# Altium schematic symbol library MCU_Texas_MSP430.SchLib: 361 symbols (part 1 of 7)
Pins are listed as number, name and electrical type; pins without a type are passive.

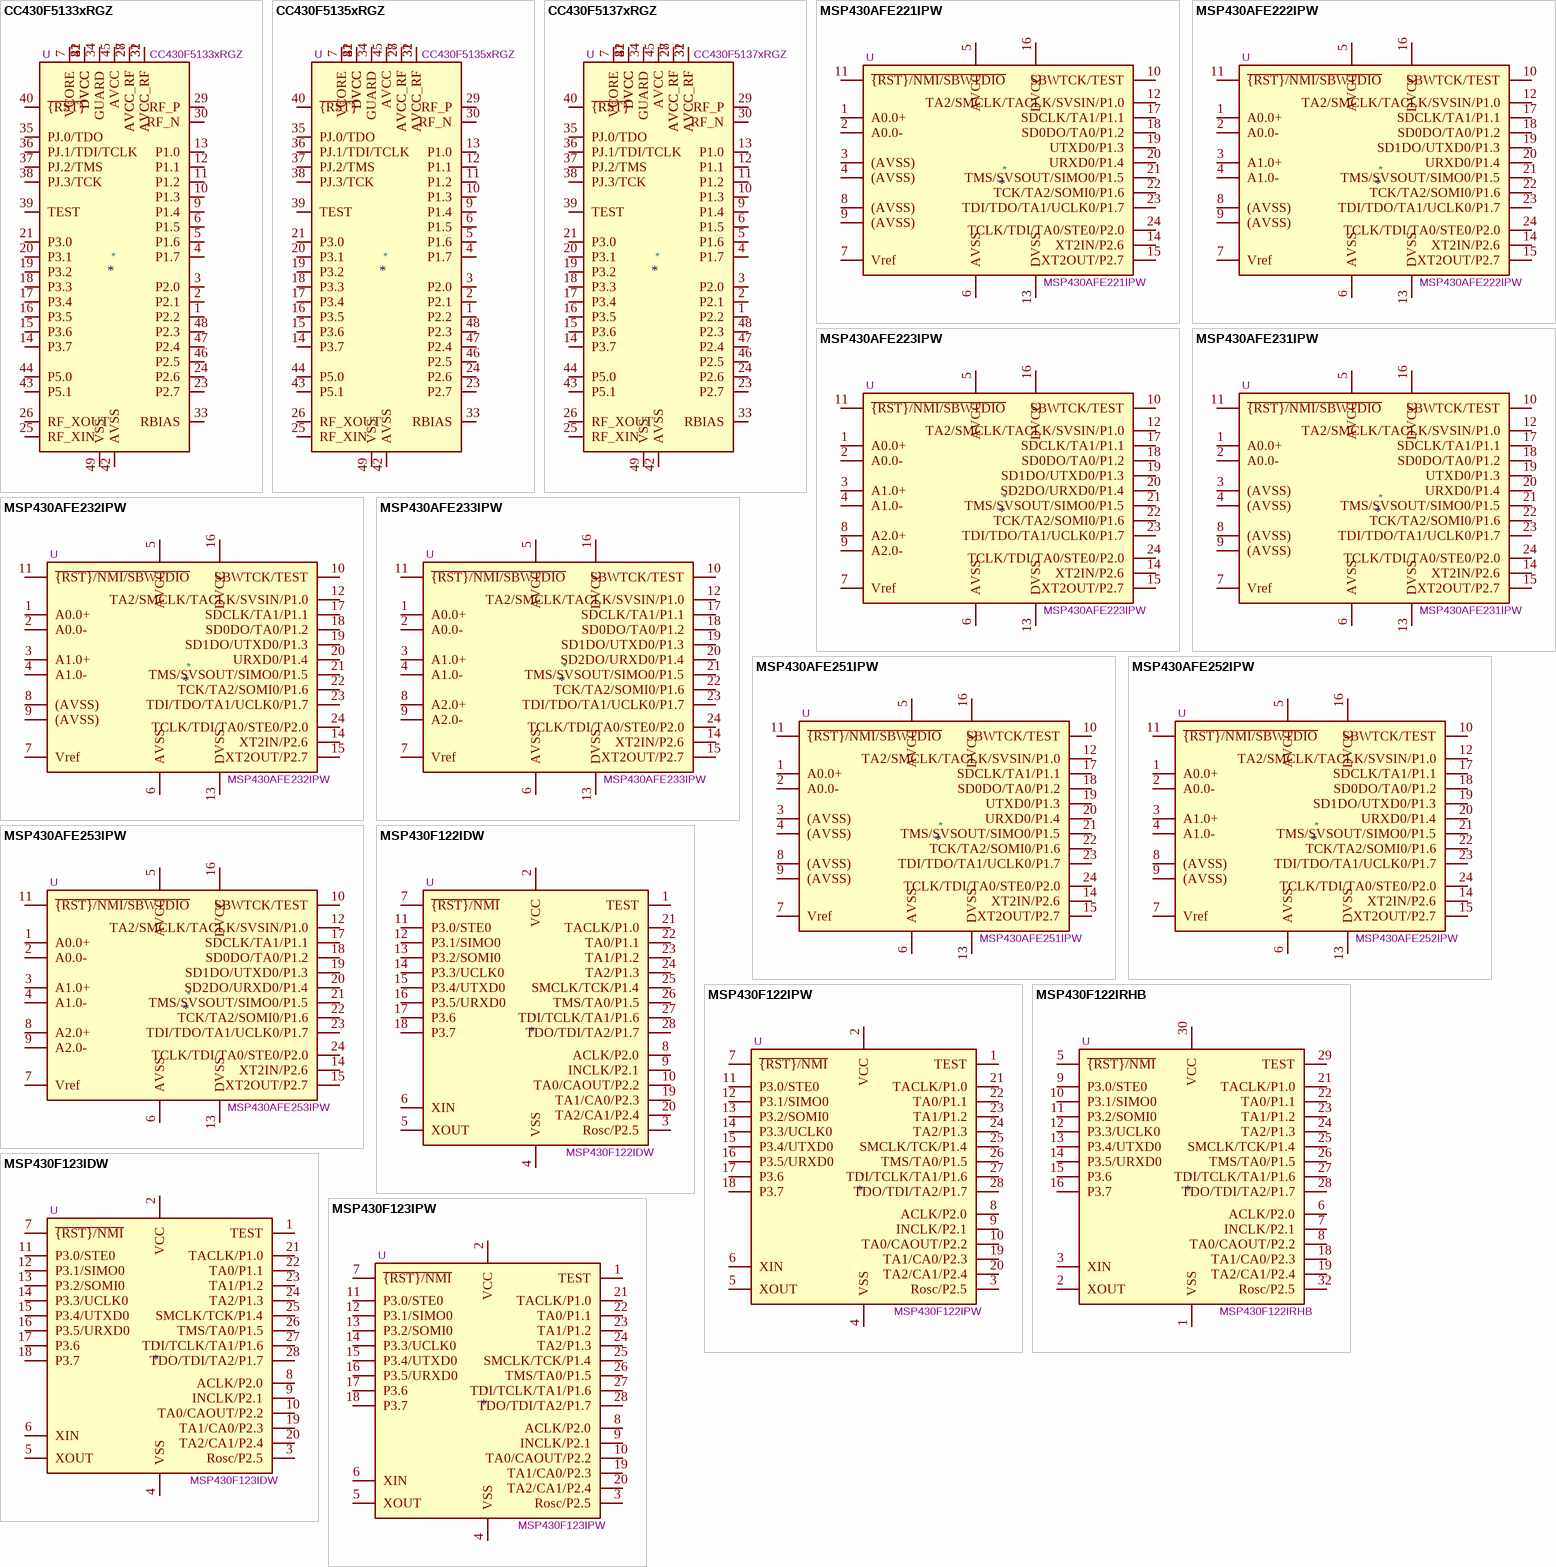
[diagram p0: symbols CC430F5133xRGZ to MSP430F123IPW]

## CC430F5133xRGZ
designator *  value CC430F5133xRGZ  Reference: U
8KB Flash, 2KB RAM, MSP430 core with integrated CC1101 radio transceiver, VQFN-48; ki_keywords: TI MSP430 CC430 16-bit mixed signal microcontroller CC1101; ki_fp_filters: VQFN*1EP*7x7mm*P0.5mm*; Footprint: Package_DFN_QFN:VQFN-48-1EP_7x7mm_P0.5mm_EP4.1x4.1mm_ThermalVias; Datasheet: http://www.ti.com/lit/ds/symlink/cc430f5137.pdf; Description_: 8KB Flash, 2KB RAM, MSP430 core with integrated CC1101 radio transceiver, VQFN-48
pins: 1 P2.2, 2 P2.1, 3 P2.0, 4 P1.7, 5 P1.6, 6 P1.5, 7 VCORE, 8 DVCC, 9 P1.4, 10 P1.3, 11 P1.2, 12 P1.1, 13 P1.0, 14 P3.7, 15 P3.6, 16 P3.5, 17 P3.4, 18 P3.3, 19 P3.2, 20 P3.1, 21 P3.0, 22 DVCC, 23 P2.7, 24 P2.6, 25 RF_XIN, 26 RF_XOUT, 27 AVCC_RF, 28 AVCC_RF, 29 RF_P, 30 RF_N, 31 AVCC_RF, 32 AVCC_RF, 33 RBIAS, 34 GUARD, 35 PJ.0/TDO, 36 PJ.1/TDI/TCLK, 37 PJ.2/TMS, 38 PJ.3/TCK, 39 TEST, 40 ~{{RST}}, 41 DVCC, 42 AVSS, 43 P5.1, 44 P5.0, 45 AVCC, 46 P2.5, 47 P2.4, 48 P2.3, 49 VSS

## CC430F5135xRGZ
designator *  value CC430F5135xRGZ  Reference: U
16KB Flash, 2KB RAM, MSP430 core with integrated CC1101 radio transceiver, VQFN-48; ki_keywords: TI MSP430 CC430 16-bit mixed signal microcontroller CC1101; ki_fp_filters: VQFN*1EP*7x7mm*P0.5mm*; Footprint: Package_DFN_QFN:VQFN-48-1EP_7x7mm_P0.5mm_EP4.1x4.1mm_ThermalVias; Datasheet: http://www.ti.com/lit/ds/symlink/cc430f5137.pdf; Description_: 16KB Flash, 2KB RAM, MSP430 core with integrated CC1101 radio transceiver, VQFN-48
pins: 1 P2.2, 2 P2.1, 3 P2.0, 4 P1.7, 5 P1.6, 6 P1.5, 7 VCORE, 8 DVCC, 9 P1.4, 10 P1.3, 11 P1.2, 12 P1.1, 13 P1.0, 14 P3.7, 15 P3.6, 16 P3.5, 17 P3.4, 18 P3.3, 19 P3.2, 20 P3.1, 21 P3.0, 22 DVCC, 23 P2.7, 24 P2.6, 25 RF_XIN, 26 RF_XOUT, 27 AVCC_RF, 28 AVCC_RF, 29 RF_P, 30 RF_N, 31 AVCC_RF, 32 AVCC_RF, 33 RBIAS, 34 GUARD, 35 PJ.0/TDO, 36 PJ.1/TDI/TCLK, 37 PJ.2/TMS, 38 PJ.3/TCK, 39 TEST, 40 ~{{RST}}, 41 DVCC, 42 AVSS, 43 P5.1, 44 P5.0, 45 AVCC, 46 P2.5, 47 P2.4, 48 P2.3, 49 VSS

## CC430F5137xRGZ
designator *  value CC430F5137xRGZ  Reference: U
32KB Flash, 4KB RAM, MSP430 core with integrated CC1101 radio transceiver, VQFN-48; ki_keywords: TI MSP430 CC430 16-bit mixed signal microcontroller CC1101; ki_fp_filters: VQFN*1EP*7x7mm*P0.5mm*; Footprint: Package_DFN_QFN:VQFN-48-1EP_7x7mm_P0.5mm_EP4.1x4.1mm_ThermalVias; Datasheet: http://www.ti.com/lit/ds/symlink/cc430f5137.pdf; Description_: 32KB Flash, 4KB RAM, MSP430 core with integrated CC1101 radio transceiver, VQFN-48
pins: 1 P2.2, 2 P2.1, 3 P2.0, 4 P1.7, 5 P1.6, 6 P1.5, 7 VCORE, 8 DVCC, 9 P1.4, 10 P1.3, 11 P1.2, 12 P1.1, 13 P1.0, 14 P3.7, 15 P3.6, 16 P3.5, 17 P3.4, 18 P3.3, 19 P3.2, 20 P3.1, 21 P3.0, 22 DVCC, 23 P2.7, 24 P2.6, 25 RF_XIN, 26 RF_XOUT, 27 AVCC_RF, 28 AVCC_RF, 29 RF_P, 30 RF_N, 31 AVCC_RF, 32 AVCC_RF, 33 RBIAS, 34 GUARD, 35 PJ.0/TDO, 36 PJ.1/TDI/TCLK, 37 PJ.2/TMS, 38 PJ.3/TCK, 39 TEST, 40 ~{{RST}}, 41 DVCC, 42 AVSS, 43 P5.1, 44 P5.0, 45 AVCC, 46 P2.5, 47 P2.4, 48 P2.3, 49 VSS

## MSP430AFE221IPW
designator *  value MSP430AFE221IPW  Reference: U
4kB Flash, 256B RAM, TSSOP-24; ki_keywords: TI MSP430 16-bit mixed signal microcontroller; ki_fp_filters: TSSOP*4.4x7.8mm*P0.65mm*; Footprint: Package_SO:TSSOP-24_4.4x7.8mm_P0.65mm; Datasheet: http://www.ti.com/lit/ds/symlink/msp430afe221.pdf; Description_: 4kB Flash, 256B RAM, TSSOP-24
pins: 1 A0.0+, 2 A0.0-, 3 (AVSS), 4 (AVSS), 5 AVCC, 6 AVSS, 7 Vref, 8 (AVSS), 9 (AVSS), 10 SBWTCK/TEST, 11 ~{{RST}/NMI/SBWTDIO}, 12 TA2/SMCLK/TACLK/SVSIN/P1.0, 13 DVSS, 14 XT2IN/P2.6, 15 XT2OUT/P2.7, 16 DVCC, 17 SDCLK/TA1/P1.1, 18 SD0DO/TA0/P1.2, 19 UTXD0/P1.3, 20 URXD0/P1.4, 21 TMS/SVSOUT/SIMO0/P1.5, 22 TCK/TA2/SOMI0/P1.6, 23 TDI/TDO/TA1/UCLK0/P1.7, 24 TCLK/TDI/TA0/STE0/P2.0

## MSP430AFE222IPW
designator *  value MSP430AFE222IPW  Reference: U
4kB Flash, 256B RAM, TSSOP-24; ki_keywords: TI MSP430 16-bit mixed signal microcontroller; ki_fp_filters: TSSOP*4.4x7.8mm*P0.65mm*; Footprint: Package_SO:TSSOP-24_4.4x7.8mm_P0.65mm; Datasheet: http://www.ti.com/lit/ds/symlink/msp430afe222.pdf; Description_: 4kB Flash, 256B RAM, TSSOP-24
pins: 1 A0.0+, 2 A0.0-, 3 A1.0+, 4 A1.0-, 5 AVCC, 6 AVSS, 7 Vref, 8 (AVSS), 9 (AVSS), 10 SBWTCK/TEST, 11 ~{{RST}/NMI/SBWTDIO}, 12 TA2/SMCLK/TACLK/SVSIN/P1.0, 13 DVSS, 14 XT2IN/P2.6, 15 XT2OUT/P2.7, 16 DVCC, 17 SDCLK/TA1/P1.1, 18 SD0DO/TA0/P1.2, 19 SD1DO/UTXD0/P1.3, 20 URXD0/P1.4, 21 TMS/SVSOUT/SIMO0/P1.5, 22 TCK/TA2/SOMI0/P1.6, 23 TDI/TDO/TA1/UCLK0/P1.7, 24 TCLK/TDI/TA0/STE0/P2.0

## MSP430AFE223IPW
designator *  value MSP430AFE223IPW  Reference: U
4kB Flash, 256B RAM, TSSOP-24; ki_keywords: TI MSP430 16-bit mixed signal microcontroller; ki_fp_filters: TSSOP*4.4x7.8mm*P0.65mm*; Footprint: Package_SO:TSSOP-24_4.4x7.8mm_P0.65mm; Datasheet: http://www.ti.com/lit/ds/symlink/msp430afe223.pdf; Description_: 4kB Flash, 256B RAM, TSSOP-24
pins: 1 A0.0+, 2 A0.0-, 3 A1.0+, 4 A1.0-, 5 AVCC, 6 AVSS, 7 Vref, 8 A2.0+, 9 A2.0-, 10 SBWTCK/TEST, 11 ~{{RST}/NMI/SBWTDIO}, 12 TA2/SMCLK/TACLK/SVSIN/P1.0, 13 DVSS, 14 XT2IN/P2.6, 15 XT2OUT/P2.7, 16 DVCC, 17 SDCLK/TA1/P1.1, 18 SD0DO/TA0/P1.2, 19 SD1DO/UTXD0/P1.3, 20 SD2DO/URXD0/P1.4, 21 TMS/SVSOUT/SIMO0/P1.5, 22 TCK/TA2/SOMI0/P1.6, 23 TDI/TDO/TA1/UCLK0/P1.7, 24 TCLK/TDI/TA0/STE0/P2.0

## MSP430AFE231IPW
designator *  value MSP430AFE231IPW  Reference: U
8kB Flash, 512B RAM, TSSOP-24; ki_keywords: TI MSP430 16-bit mixed signal microcontroller; ki_fp_filters: TSSOP*4.4x7.8mm*P0.65mm*; Footprint: Package_SO:TSSOP-24_4.4x7.8mm_P0.65mm; Datasheet: http://www.ti.com/lit/ds/symlink/msp430afe231.pdf; Description_: 8kB Flash, 512B RAM, TSSOP-24
pins: 1 A0.0+, 2 A0.0-, 3 (AVSS), 4 (AVSS), 5 AVCC, 6 AVSS, 7 Vref, 8 (AVSS), 9 (AVSS), 10 SBWTCK/TEST, 11 ~{{RST}/NMI/SBWTDIO}, 12 TA2/SMCLK/TACLK/SVSIN/P1.0, 13 DVSS, 14 XT2IN/P2.6, 15 XT2OUT/P2.7, 16 DVCC, 17 SDCLK/TA1/P1.1, 18 SD0DO/TA0/P1.2, 19 UTXD0/P1.3, 20 URXD0/P1.4, 21 TMS/SVSOUT/SIMO0/P1.5, 22 TCK/TA2/SOMI0/P1.6, 23 TDI/TDO/TA1/UCLK0/P1.7, 24 TCLK/TDI/TA0/STE0/P2.0

## MSP430AFE232IPW
designator *  value MSP430AFE232IPW  Reference: U
8kB Flash, 512B RAM, TSSOP-24; ki_keywords: TI MSP430 16-bit mixed signal microcontroller; ki_fp_filters: TSSOP*4.4x7.8mm*P0.65mm*; Footprint: Package_SO:TSSOP-24_4.4x7.8mm_P0.65mm; Datasheet: http://www.ti.com/lit/ds/symlink/msp430afe232.pdf; Description_: 8kB Flash, 512B RAM, TSSOP-24
pins: 1 A0.0+, 2 A0.0-, 3 A1.0+, 4 A1.0-, 5 AVCC, 6 AVSS, 7 Vref, 8 (AVSS), 9 (AVSS), 10 SBWTCK/TEST, 11 ~{{RST}/NMI/SBWTDIO}, 12 TA2/SMCLK/TACLK/SVSIN/P1.0, 13 DVSS, 14 XT2IN/P2.6, 15 XT2OUT/P2.7, 16 DVCC, 17 SDCLK/TA1/P1.1, 18 SD0DO/TA0/P1.2, 19 SD1DO/UTXD0/P1.3, 20 URXD0/P1.4, 21 TMS/SVSOUT/SIMO0/P1.5, 22 TCK/TA2/SOMI0/P1.6, 23 TDI/TDO/TA1/UCLK0/P1.7, 24 TCLK/TDI/TA0/STE0/P2.0

## MSP430AFE233IPW
designator *  value MSP430AFE233IPW  Reference: U
8kB Flash, 512B RAM, TSSOP-24; ki_keywords: TI MSP430 16-bit mixed signal microcontroller; ki_fp_filters: TSSOP*4.4x7.8mm*P0.65mm*; Footprint: Package_SO:TSSOP-24_4.4x7.8mm_P0.65mm; Datasheet: http://www.ti.com/lit/ds/symlink/msp430afe233.pdf; Description_: 8kB Flash, 512B RAM, TSSOP-24
pins: 1 A0.0+, 2 A0.0-, 3 A1.0+, 4 A1.0-, 5 AVCC, 6 AVSS, 7 Vref, 8 A2.0+, 9 A2.0-, 10 SBWTCK/TEST, 11 ~{{RST}/NMI/SBWTDIO}, 12 TA2/SMCLK/TACLK/SVSIN/P1.0, 13 DVSS, 14 XT2IN/P2.6, 15 XT2OUT/P2.7, 16 DVCC, 17 SDCLK/TA1/P1.1, 18 SD0DO/TA0/P1.2, 19 SD1DO/UTXD0/P1.3, 20 SD2DO/URXD0/P1.4, 21 TMS/SVSOUT/SIMO0/P1.5, 22 TCK/TA2/SOMI0/P1.6, 23 TDI/TDO/TA1/UCLK0/P1.7, 24 TCLK/TDI/TA0/STE0/P2.0

## MSP430AFE251IPW
designator *  value MSP430AFE251IPW  Reference: U
16kB Flash, 512B RAM, TSSOP-24; ki_keywords: TI MSP430 16-bit mixed signal microcontroller; ki_fp_filters: TSSOP*4.4x7.8mm*P0.65mm*; Footprint: Package_SO:TSSOP-24_4.4x7.8mm_P0.65mm; Datasheet: http://www.ti.com/lit/ds/symlink/msp430afe251.pdf; Description_: 16kB Flash, 512B RAM, TSSOP-24
pins: 1 A0.0+, 2 A0.0-, 3 (AVSS), 4 (AVSS), 5 AVCC, 6 AVSS, 7 Vref, 8 (AVSS), 9 (AVSS), 10 SBWTCK/TEST, 11 ~{{RST}/NMI/SBWTDIO}, 12 TA2/SMCLK/TACLK/SVSIN/P1.0, 13 DVSS, 14 XT2IN/P2.6, 15 XT2OUT/P2.7, 16 DVCC, 17 SDCLK/TA1/P1.1, 18 SD0DO/TA0/P1.2, 19 UTXD0/P1.3, 20 URXD0/P1.4, 21 TMS/SVSOUT/SIMO0/P1.5, 22 TCK/TA2/SOMI0/P1.6, 23 TDI/TDO/TA1/UCLK0/P1.7, 24 TCLK/TDI/TA0/STE0/P2.0

## MSP430AFE252IPW
designator *  value MSP430AFE252IPW  Reference: U
16kB Flash, 512B RAM, TSSOP-24; ki_keywords: TI MSP430 16-bit mixed signal microcontroller; ki_fp_filters: TSSOP*4.4x7.8mm*P0.65mm*; Footprint: Package_SO:TSSOP-24_4.4x7.8mm_P0.65mm; Datasheet: http://www.ti.com/lit/ds/symlink/msp430afe252.pdf; Description_: 16kB Flash, 512B RAM, TSSOP-24
pins: 1 A0.0+, 2 A0.0-, 3 A1.0+, 4 A1.0-, 5 AVCC, 6 AVSS, 7 Vref, 8 (AVSS), 9 (AVSS), 10 SBWTCK/TEST, 11 ~{{RST}/NMI/SBWTDIO}, 12 TA2/SMCLK/TACLK/SVSIN/P1.0, 13 DVSS, 14 XT2IN/P2.6, 15 XT2OUT/P2.7, 16 DVCC, 17 SDCLK/TA1/P1.1, 18 SD0DO/TA0/P1.2, 19 SD1DO/UTXD0/P1.3, 20 URXD0/P1.4, 21 TMS/SVSOUT/SIMO0/P1.5, 22 TCK/TA2/SOMI0/P1.6, 23 TDI/TDO/TA1/UCLK0/P1.7, 24 TCLK/TDI/TA0/STE0/P2.0

## MSP430AFE253IPW
designator *  value MSP430AFE253IPW  Reference: U
16kB Flash, 512B RAM, TSSOP-24; ki_keywords: TI MSP430 16-bit mixed signal microcontroller; ki_fp_filters: TSSOP*4.4x7.8mm*P0.65mm*; Footprint: Package_SO:TSSOP-24_4.4x7.8mm_P0.65mm; Datasheet: http://www.ti.com/lit/ds/symlink/msp430afe253.pdf; Description_: 16kB Flash, 512B RAM, TSSOP-24
pins: 1 A0.0+, 2 A0.0-, 3 A1.0+, 4 A1.0-, 5 AVCC, 6 AVSS, 7 Vref, 8 A2.0+, 9 A2.0-, 10 SBWTCK/TEST, 11 ~{{RST}/NMI/SBWTDIO}, 12 TA2/SMCLK/TACLK/SVSIN/P1.0, 13 DVSS, 14 XT2IN/P2.6, 15 XT2OUT/P2.7, 16 DVCC, 17 SDCLK/TA1/P1.1, 18 SD0DO/TA0/P1.2, 19 SD1DO/UTXD0/P1.3, 20 SD2DO/URXD0/P1.4, 21 TMS/SVSOUT/SIMO0/P1.5, 22 TCK/TA2/SOMI0/P1.6, 23 TDI/TDO/TA1/UCLK0/P1.7, 24 TCLK/TDI/TA0/STE0/P2.0

## MSP430F122IDW
designator *  value MSP430F122IDW  Reference: U
4kB + 256B Flash, 256B RAM, SOWB-28; ki_keywords: TI MSP430 16-bit mixed signal microcontroller; ki_fp_filters: SOIC*7.5x17.9mm*P1.27mm*; Footprint: Package_SO:SOIC-28W_7.5x17.9mm_P1.27mm; Datasheet: http://www.ti.com/lit/ds/symlink/msp430f122.pdf; Description_: 4kB + 256B Flash, 256B RAM, SOWB-28
pins: 1 TEST, 2 VCC, 3 Rosc/P2.5, 4 VSS, 5 XOUT, 6 XIN, 7 ~{{RST}/NMI}, 8 ACLK/P2.0, 9 INCLK/P2.1, 10 TA0/CAOUT/P2.2, 11 P3.0/STE0, 12 P3.1/SIMO0, 13 P3.2/SOMI0, 14 P3.3/UCLK0, 15 P3.4/UTXD0, 16 P3.5/URXD0, 17 P3.6, 18 P3.7, 19 TA1/CA0/P2.3, 20 TA2/CA1/P2.4, 21 TACLK/P1.0, 22 TA0/P1.1, 23 TA1/P1.2, 24 TA2/P1.3, 25 SMCLK/TCK/P1.4, 26 TMS/TA0/P1.5, 27 TDI/TCLK/TA1/P1.6, 28 TDO/TDI/TA2/P1.7

## MSP430F122IPW
designator *  value MSP430F122IPW  Reference: U
4kB + 256B Flash, 256B RAM, TSSOP-28; ki_keywords: TI MSP430 16-bit mixed signal microcontroller; ki_fp_filters: TSSOP*4.4x9.7mm*P0.65mm*; Footprint: Package_SO:TSSOP-28_4.4x9.7mm_P0.65mm; Datasheet: http://www.ti.com/lit/ds/symlink/msp430f122.pdf; Description_: 4kB + 256B Flash, 256B RAM, TSSOP-28
pins: 1 TEST, 2 VCC, 3 Rosc/P2.5, 4 VSS, 5 XOUT, 6 XIN, 7 ~{{RST}/NMI}, 8 ACLK/P2.0, 9 INCLK/P2.1, 10 TA0/CAOUT/P2.2, 11 P3.0/STE0, 12 P3.1/SIMO0, 13 P3.2/SOMI0, 14 P3.3/UCLK0, 15 P3.4/UTXD0, 16 P3.5/URXD0, 17 P3.6, 18 P3.7, 19 TA1/CA0/P2.3, 20 TA2/CA1/P2.4, 21 TACLK/P1.0, 22 TA0/P1.1, 23 TA1/P1.2, 24 TA2/P1.3, 25 SMCLK/TCK/P1.4, 26 TMS/TA0/P1.5, 27 TDI/TCLK/TA1/P1.6, 28 TDO/TDI/TA2/P1.7

## MSP430F122IRHB
designator *  value MSP430F122IRHB  Reference: U
4kB + 256B Flash, 256B RAM, QFN-32; ki_keywords: TI MSP430 16-bit mixed signal microcontroller; ki_fp_filters: Texas*VQFN*1EP*5x5mm*P0.5mm*; Footprint: Package_DFN_QFN:Texas_RHB0032E_VQFN-32-1EP_5x5mm_P0.5mm_EP3.45x3.45mm; Datasheet: http://www.ti.com/lit/ds/symlink/msp430f122.pdf; Description_: 4kB + 256B Flash, 256B RAM, QFN-32
pins: 1 VSS, 2 XOUT, 3 XIN, 5 ~{{RST}/NMI}, 6 ACLK/P2.0, 7 INCLK/P2.1, 8 TA0/CAOUT/P2.2, 9 P3.0/STE0, 10 P3.1/SIMO0, 11 P3.2/SOMI0, 12 P3.3/UCLK0, 13 P3.4/UTXD0, 14 P3.5/URXD0, 15 P3.6, 16 P3.7, 18 TA1/CA0/P2.3, 19 TA2/CA1/P2.4, 21 TACLK/P1.0, 22 TA0/P1.1, 23 TA1/P1.2, 24 TA2/P1.3, 25 SMCLK/TCK/P1.4, 26 TMS/TA0/P1.5, 27 TDI/TCLK/TA1/P1.6, 28 TDO/TDI/TA2/P1.7, 29 TEST, 30 VCC, 32 Rosc/P2.5

## MSP430F123IDW
designator *  value MSP430F123IDW  Reference: U
8kB + 256B Flash, 256B RAM, SOWB-28; ki_keywords: TI MSP430 16-bit mixed signal microcontroller; ki_fp_filters: SOIC*7.5x17.9mm*P1.27mm*; Footprint: Package_SO:SOIC-28W_7.5x17.9mm_P1.27mm; Datasheet: http://www.ti.com/lit/ds/symlink/msp430f123.pdf; Description_: 8kB + 256B Flash, 256B RAM, SOWB-28
pins: 1 TEST, 2 VCC, 3 Rosc/P2.5, 4 VSS, 5 XOUT, 6 XIN, 7 ~{{RST}/NMI}, 8 ACLK/P2.0, 9 INCLK/P2.1, 10 TA0/CAOUT/P2.2, 11 P3.0/STE0, 12 P3.1/SIMO0, 13 P3.2/SOMI0, 14 P3.3/UCLK0, 15 P3.4/UTXD0, 16 P3.5/URXD0, 17 P3.6, 18 P3.7, 19 TA1/CA0/P2.3, 20 TA2/CA1/P2.4, 21 TACLK/P1.0, 22 TA0/P1.1, 23 TA1/P1.2, 24 TA2/P1.3, 25 SMCLK/TCK/P1.4, 26 TMS/TA0/P1.5, 27 TDI/TCLK/TA1/P1.6, 28 TDO/TDI/TA2/P1.7

## MSP430F123IPW
designator *  value MSP430F123IPW  Reference: U
8kB + 256B Flash, 256B RAM, TSSOP-28; ki_keywords: TI MSP430 16-bit mixed signal microcontroller; ki_fp_filters: TSSOP*4.4x9.7mm*P0.65mm*; Footprint: Package_SO:TSSOP-28_4.4x9.7mm_P0.65mm; Datasheet: http://www.ti.com/lit/ds/symlink/msp430f123.pdf; Description_: 8kB + 256B Flash, 256B RAM, TSSOP-28
pins: 1 TEST, 2 VCC, 3 Rosc/P2.5, 4 VSS, 5 XOUT, 6 XIN, 7 ~{{RST}/NMI}, 8 ACLK/P2.0, 9 INCLK/P2.1, 10 TA0/CAOUT/P2.2, 11 P3.0/STE0, 12 P3.1/SIMO0, 13 P3.2/SOMI0, 14 P3.3/UCLK0, 15 P3.4/UTXD0, 16 P3.5/URXD0, 17 P3.6, 18 P3.7, 19 TA1/CA0/P2.3, 20 TA2/CA1/P2.4, 21 TACLK/P1.0, 22 TA0/P1.1, 23 TA1/P1.2, 24 TA2/P1.3, 25 SMCLK/TCK/P1.4, 26 TMS/TA0/P1.5, 27 TDI/TCLK/TA1/P1.6, 28 TDO/TDI/TA2/P1.7

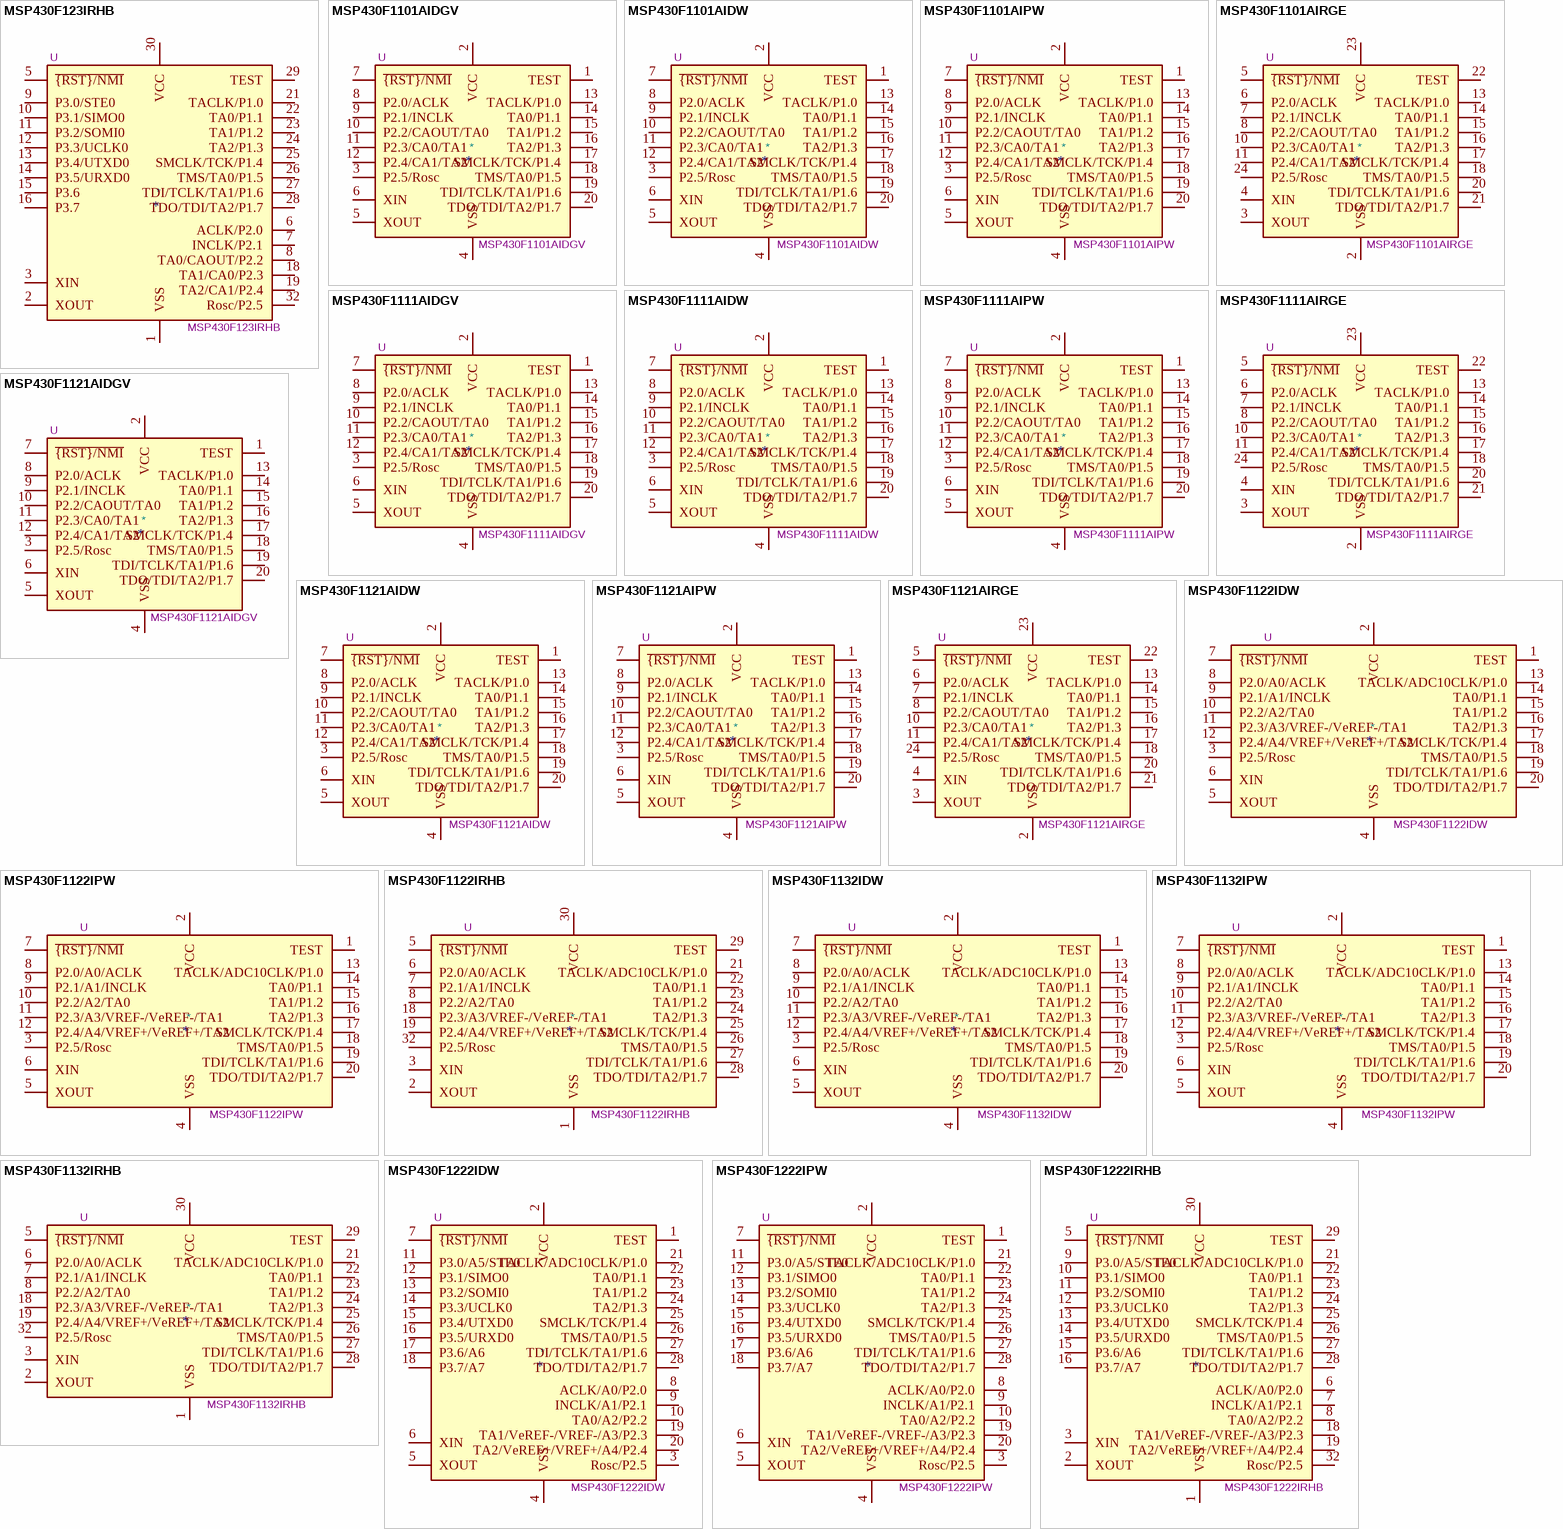
[diagram p1: symbols MSP430F123IRHB to MSP430F1222IRHB]

## MSP430F123IRHB
designator *  value MSP430F123IRHB  Reference: U
8kB + 256B Flash, 256B RAM, QFN-32; ki_keywords: TI MSP430 16-bit mixed signal microcontroller; ki_fp_filters: Texas*VQFN*1EP*5x5mm*P0.5mm*; Footprint: Package_DFN_QFN:Texas_RHB0032E_VQFN-32-1EP_5x5mm_P0.5mm_EP3.45x3.45mm; Datasheet: http://www.ti.com/lit/ds/symlink/msp430f123.pdf; Description_: 8kB + 256B Flash, 256B RAM, QFN-32
pins: 1 VSS, 2 XOUT, 3 XIN, 5 ~{{RST}/NMI}, 6 ACLK/P2.0, 7 INCLK/P2.1, 8 TA0/CAOUT/P2.2, 9 P3.0/STE0, 10 P3.1/SIMO0, 11 P3.2/SOMI0, 12 P3.3/UCLK0, 13 P3.4/UTXD0, 14 P3.5/URXD0, 15 P3.6, 16 P3.7, 18 TA1/CA0/P2.3, 19 TA2/CA1/P2.4, 21 TACLK/P1.0, 22 TA0/P1.1, 23 TA1/P1.2, 24 TA2/P1.3, 25 SMCLK/TCK/P1.4, 26 TMS/TA0/P1.5, 27 TDI/TCLK/TA1/P1.6, 28 TDO/TDI/TA2/P1.7, 29 TEST, 30 VCC, 32 Rosc/P2.5

## MSP430F1101AIDGV
designator *  value MSP430F1101AIDGV  Reference: U
1kB + 128B Flash, 128B RAM, TVSOP-20; ki_keywords: TI MSP430 16-bit mixed signal microcontroller; ki_fp_filters: TSSOP*4.4x6.5mm*P0.65mm*; Footprint: Package_SO:TSSOP-20_4.4x6.5mm_P0.65mm; Datasheet: http://www.ti.com/lit/ds/symlink/msp430f1101a.pdf; Description_: 1kB + 128B Flash, 128B RAM, TVSOP-20
pins: 1 TEST, 2 VCC, 3 P2.5/Rosc, 4 VSS, 5 XOUT, 6 XIN, 7 ~{{RST}/NMI}, 8 P2.0/ACLK, 9 P2.1/INCLK, 10 P2.2/CAOUT/TA0, 11 P2.3/CA0/TA1, 12 P2.4/CA1/TA2, 13 TACLK/P1.0, 14 TA0/P1.1, 15 TA1/P1.2, 16 TA2/P1.3, 17 SMCLK/TCK/P1.4, 18 TMS/TA0/P1.5, 19 TDI/TCLK/TA1/P1.6, 20 TDO/TDI/TA2/P1.7

## MSP430F1101AIDW
designator *  value MSP430F1101AIDW  Reference: U
1kB + 128B Flash, 128B RAM, SOWB-20; ki_keywords: TI MSP430 16-bit mixed signal microcontroller; ki_fp_filters: SOIC*7.5x12.8mm*P1.27mm*; Footprint: Package_SO:SOIC-20W_7.5x12.8mm_P1.27mm; Datasheet: http://www.ti.com/lit/ds/symlink/msp430f1101a.pdf; Description_: 1kB + 128B Flash, 128B RAM, SOWB-20
pins: 1 TEST, 2 VCC, 3 P2.5/Rosc, 4 VSS, 5 XOUT, 6 XIN, 7 ~{{RST}/NMI}, 8 P2.0/ACLK, 9 P2.1/INCLK, 10 P2.2/CAOUT/TA0, 11 P2.3/CA0/TA1, 12 P2.4/CA1/TA2, 13 TACLK/P1.0, 14 TA0/P1.1, 15 TA1/P1.2, 16 TA2/P1.3, 17 SMCLK/TCK/P1.4, 18 TMS/TA0/P1.5, 19 TDI/TCLK/TA1/P1.6, 20 TDO/TDI/TA2/P1.7

## MSP430F1101AIPW
designator *  value MSP430F1101AIPW  Reference: U
1kB + 128B Flash, 128B RAM, TSSOP-20; ki_keywords: TI MSP430 16-bit mixed signal microcontroller; ki_fp_filters: TSSOP*4.4x6.5mm*P0.65mm*; Footprint: Package_SO:TSSOP-20_4.4x6.5mm_P0.65mm; Datasheet: http://www.ti.com/lit/ds/symlink/msp430f1101a.pdf; Description_: 1kB + 128B Flash, 128B RAM, TSSOP-20
pins: 1 TEST, 2 VCC, 3 P2.5/Rosc, 4 VSS, 5 XOUT, 6 XIN, 7 ~{{RST}/NMI}, 8 P2.0/ACLK, 9 P2.1/INCLK, 10 P2.2/CAOUT/TA0, 11 P2.3/CA0/TA1, 12 P2.4/CA1/TA2, 13 TACLK/P1.0, 14 TA0/P1.1, 15 TA1/P1.2, 16 TA2/P1.3, 17 SMCLK/TCK/P1.4, 18 TMS/TA0/P1.5, 19 TDI/TCLK/TA1/P1.6, 20 TDO/TDI/TA2/P1.7

## MSP430F1101AIRGE
designator *  value MSP430F1101AIRGE  Reference: U
1kB + 128B Flash, 128B RAM, QFN-24; ki_keywords: TI MSP430 16-bit mixed signal microcontroller; ki_fp_filters: VQFN*1EP*4x4mm*P0.5mm*; Footprint: Package_DFN_QFN:VQFN-24-1EP_4x4mm_P0.5mm_EP2.45x2.45mm; Datasheet: http://www.ti.com/lit/ds/symlink/msp430f1101a.pdf; Description_: 1kB + 128B Flash, 128B RAM, QFN-24
pins: 2 VSS, 3 XOUT, 4 XIN, 5 ~{{RST}/NMI}, 6 P2.0/ACLK, 7 P2.1/INCLK, 8 P2.2/CAOUT/TA0, 10 P2.3/CA0/TA1, 11 P2.4/CA1/TA2, 13 TACLK/P1.0, 14 TA0/P1.1, 15 TA1/P1.2, 16 TA2/P1.3, 17 SMCLK/TCK/P1.4, 18 TMS/TA0/P1.5, 20 TDI/TCLK/TA1/P1.6, 21 TDO/TDI/TA2/P1.7, 22 TEST, 23 VCC, 24 P2.5/Rosc

## MSP430F1111AIDGV
designator *  value MSP430F1111AIDGV  Reference: U
2kB + 256B Flash, 128B RAM, TVSOP-20; ki_keywords: TI MSP430 16-bit mixed signal microcontroller; ki_fp_filters: TSSOP*4.4x6.5mm*P0.65mm*; Footprint: Package_SO:TSSOP-20_4.4x6.5mm_P0.65mm; Datasheet: http://www.ti.com/lit/ds/symlink/msp430f1111a.pdf; Description_: 2kB + 256B Flash, 128B RAM, TVSOP-20
pins: 1 TEST, 2 VCC, 3 P2.5/Rosc, 4 VSS, 5 XOUT, 6 XIN, 7 ~{{RST}/NMI}, 8 P2.0/ACLK, 9 P2.1/INCLK, 10 P2.2/CAOUT/TA0, 11 P2.3/CA0/TA1, 12 P2.4/CA1/TA2, 13 TACLK/P1.0, 14 TA0/P1.1, 15 TA1/P1.2, 16 TA2/P1.3, 17 SMCLK/TCK/P1.4, 18 TMS/TA0/P1.5, 19 TDI/TCLK/TA1/P1.6, 20 TDO/TDI/TA2/P1.7

## MSP430F1111AIDW
designator *  value MSP430F1111AIDW  Reference: U
2kB + 256B Flash, 128B RAM, SOWB-20; ki_keywords: TI MSP430 16-bit mixed signal microcontroller; ki_fp_filters: SOIC*7.5x12.8mm*P1.27mm*; Footprint: Package_SO:SOIC-20W_7.5x12.8mm_P1.27mm; Datasheet: http://www.ti.com/lit/ds/symlink/msp430f1111a.pdf; Description_: 2kB + 256B Flash, 128B RAM, SOWB-20
pins: 1 TEST, 2 VCC, 3 P2.5/Rosc, 4 VSS, 5 XOUT, 6 XIN, 7 ~{{RST}/NMI}, 8 P2.0/ACLK, 9 P2.1/INCLK, 10 P2.2/CAOUT/TA0, 11 P2.3/CA0/TA1, 12 P2.4/CA1/TA2, 13 TACLK/P1.0, 14 TA0/P1.1, 15 TA1/P1.2, 16 TA2/P1.3, 17 SMCLK/TCK/P1.4, 18 TMS/TA0/P1.5, 19 TDI/TCLK/TA1/P1.6, 20 TDO/TDI/TA2/P1.7

## MSP430F1111AIPW
designator *  value MSP430F1111AIPW  Reference: U
2kB + 256B Flash, 128B RAM, TSSOP-20; ki_keywords: TI MSP430 16-bit mixed signal microcontroller; ki_fp_filters: TSSOP*4.4x6.5mm*P0.65mm*; Footprint: Package_SO:TSSOP-20_4.4x6.5mm_P0.65mm; Datasheet: http://www.ti.com/lit/ds/symlink/msp430f1111a.pdf; Description_: 2kB + 256B Flash, 128B RAM, TSSOP-20
pins: 1 TEST, 2 VCC, 3 P2.5/Rosc, 4 VSS, 5 XOUT, 6 XIN, 7 ~{{RST}/NMI}, 8 P2.0/ACLK, 9 P2.1/INCLK, 10 P2.2/CAOUT/TA0, 11 P2.3/CA0/TA1, 12 P2.4/CA1/TA2, 13 TACLK/P1.0, 14 TA0/P1.1, 15 TA1/P1.2, 16 TA2/P1.3, 17 SMCLK/TCK/P1.4, 18 TMS/TA0/P1.5, 19 TDI/TCLK/TA1/P1.6, 20 TDO/TDI/TA2/P1.7

## MSP430F1111AIRGE
designator *  value MSP430F1111AIRGE  Reference: U
2kB + 256B Flash, 128B RAM, QFN-24; ki_keywords: TI MSP430 16-bit mixed signal microcontroller; ki_fp_filters: VQFN*1EP*4x4mm*P0.5mm*; Footprint: Package_DFN_QFN:VQFN-24-1EP_4x4mm_P0.5mm_EP2.45x2.45mm; Datasheet: http://www.ti.com/lit/ds/symlink/msp430f1111a.pdf; Description_: 2kB + 256B Flash, 128B RAM, QFN-24
pins: 2 VSS, 3 XOUT, 4 XIN, 5 ~{{RST}/NMI}, 6 P2.0/ACLK, 7 P2.1/INCLK, 8 P2.2/CAOUT/TA0, 10 P2.3/CA0/TA1, 11 P2.4/CA1/TA2, 13 TACLK/P1.0, 14 TA0/P1.1, 15 TA1/P1.2, 16 TA2/P1.3, 17 SMCLK/TCK/P1.4, 18 TMS/TA0/P1.5, 20 TDI/TCLK/TA1/P1.6, 21 TDO/TDI/TA2/P1.7, 22 TEST, 23 VCC, 24 P2.5/Rosc

## MSP430F1121AIDGV
designator *  value MSP430F1121AIDGV  Reference: U
4kB + 256B Flash, 256B RAM, TVSOP-20; ki_keywords: TI MSP430 16-bit mixed signal microcontroller; ki_fp_filters: TSSOP*4.4x6.5mm*P0.65mm*; Footprint: Package_SO:TSSOP-20_4.4x6.5mm_P0.65mm; Datasheet: http://www.ti.com/lit/ds/symlink/msp430f1121a.pdf; Description_: 4kB + 256B Flash, 256B RAM, TVSOP-20
pins: 1 TEST, 2 VCC, 3 P2.5/Rosc, 4 VSS, 5 XOUT, 6 XIN, 7 ~{{RST}/NMI}, 8 P2.0/ACLK, 9 P2.1/INCLK, 10 P2.2/CAOUT/TA0, 11 P2.3/CA0/TA1, 12 P2.4/CA1/TA2, 13 TACLK/P1.0, 14 TA0/P1.1, 15 TA1/P1.2, 16 TA2/P1.3, 17 SMCLK/TCK/P1.4, 18 TMS/TA0/P1.5, 19 TDI/TCLK/TA1/P1.6, 20 TDO/TDI/TA2/P1.7

## MSP430F1121AIDW
designator *  value MSP430F1121AIDW  Reference: U
4kB + 256B Flash, 256B RAM, SOWB-20; ki_keywords: TI MSP430 16-bit mixed signal microcontroller; ki_fp_filters: SOIC*7.5x12.8mm*P1.27mm*; Footprint: Package_SO:SOIC-20W_7.5x12.8mm_P1.27mm; Datasheet: http://www.ti.com/lit/ds/symlink/msp430f1121a.pdf; Description_: 4kB + 256B Flash, 256B RAM, SOWB-20
pins: 1 TEST, 2 VCC, 3 P2.5/Rosc, 4 VSS, 5 XOUT, 6 XIN, 7 ~{{RST}/NMI}, 8 P2.0/ACLK, 9 P2.1/INCLK, 10 P2.2/CAOUT/TA0, 11 P2.3/CA0/TA1, 12 P2.4/CA1/TA2, 13 TACLK/P1.0, 14 TA0/P1.1, 15 TA1/P1.2, 16 TA2/P1.3, 17 SMCLK/TCK/P1.4, 18 TMS/TA0/P1.5, 19 TDI/TCLK/TA1/P1.6, 20 TDO/TDI/TA2/P1.7

## MSP430F1121AIPW
designator *  value MSP430F1121AIPW  Reference: U
4kB + 256B Flash, 256B RAM, TSSOP-20; ki_keywords: TI MSP430 16-bit mixed signal microcontroller; ki_fp_filters: TSSOP*4.4x6.5mm*P0.65mm*; Footprint: Package_SO:TSSOP-20_4.4x6.5mm_P0.65mm; Datasheet: http://www.ti.com/lit/ds/symlink/msp430f1121a.pdf; Description_: 4kB + 256B Flash, 256B RAM, TSSOP-20
pins: 1 TEST, 2 VCC, 3 P2.5/Rosc, 4 VSS, 5 XOUT, 6 XIN, 7 ~{{RST}/NMI}, 8 P2.0/ACLK, 9 P2.1/INCLK, 10 P2.2/CAOUT/TA0, 11 P2.3/CA0/TA1, 12 P2.4/CA1/TA2, 13 TACLK/P1.0, 14 TA0/P1.1, 15 TA1/P1.2, 16 TA2/P1.3, 17 SMCLK/TCK/P1.4, 18 TMS/TA0/P1.5, 19 TDI/TCLK/TA1/P1.6, 20 TDO/TDI/TA2/P1.7

## MSP430F1121AIRGE
designator *  value MSP430F1121AIRGE  Reference: U
4kB + 256B Flash, 256B RAM, QFN-24; ki_keywords: TI MSP430 16-bit mixed signal microcontroller; ki_fp_filters: VQFN*1EP*4x4mm*P0.5mm*; Footprint: Package_DFN_QFN:VQFN-24-1EP_4x4mm_P0.5mm_EP2.45x2.45mm; Datasheet: http://www.ti.com/lit/ds/symlink/msp430f1121a.pdf; Description_: 4kB + 256B Flash, 256B RAM, QFN-24
pins: 2 VSS, 3 XOUT, 4 XIN, 5 ~{{RST}/NMI}, 6 P2.0/ACLK, 7 P2.1/INCLK, 8 P2.2/CAOUT/TA0, 10 P2.3/CA0/TA1, 11 P2.4/CA1/TA2, 13 TACLK/P1.0, 14 TA0/P1.1, 15 TA1/P1.2, 16 TA2/P1.3, 17 SMCLK/TCK/P1.4, 18 TMS/TA0/P1.5, 20 TDI/TCLK/TA1/P1.6, 21 TDO/TDI/TA2/P1.7, 22 TEST, 23 VCC, 24 P2.5/Rosc

## MSP430F1122IDW
designator *  value MSP430F1122IDW  Reference: U
4kB + 256B Flash, 256B RAM, SOWB-20; ki_keywords: TI MSP430 16-bit mixed signal microcontroller; ki_fp_filters: SOIC*7.5x17.9mm*P1.27mm*; Footprint: Package_SO:SOIC-28W_7.5x17.9mm_P1.27mm; Datasheet: http://www.ti.com/lit/ds/symlink/msp430f1122.pdf; Description_: 4kB + 256B Flash, 256B RAM, SOWB-20
pins: 1 TEST, 2 VCC, 3 P2.5/Rosc, 4 VSS, 5 XOUT, 6 XIN, 7 ~{{RST}/NMI}, 8 P2.0/A0/ACLK, 9 P2.1/A1/INCLK, 10 P2.2/A2/TA0, 11 P2.3/A3/VREF-/VeREF-/TA1, 12 P2.4/A4/VREF+/VeREF+/TA2, 13 TACLK/ADC10CLK/P1.0, 14 TA0/P1.1, 15 TA1/P1.2, 16 TA2/P1.3, 17 SMCLK/TCK/P1.4, 18 TMS/TA0/P1.5, 19 TDI/TCLK/TA1/P1.6, 20 TDO/TDI/TA2/P1.7

## MSP430F1122IPW
designator *  value MSP430F1122IPW  Reference: U
4kB + 256B Flash, 256B RAM, TSSOP-20; ki_keywords: TI MSP430 16-bit mixed signal microcontroller; ki_fp_filters: TSSOP*4.4x9.7mm*P0.65mm*; Footprint: Package_SO:TSSOP-28_4.4x9.7mm_P0.65mm; Datasheet: http://www.ti.com/lit/ds/symlink/msp430f1122.pdf; Description_: 4kB + 256B Flash, 256B RAM, TSSOP-20
pins: 1 TEST, 2 VCC, 3 P2.5/Rosc, 4 VSS, 5 XOUT, 6 XIN, 7 ~{{RST}/NMI}, 8 P2.0/A0/ACLK, 9 P2.1/A1/INCLK, 10 P2.2/A2/TA0, 11 P2.3/A3/VREF-/VeREF-/TA1, 12 P2.4/A4/VREF+/VeREF+/TA2, 13 TACLK/ADC10CLK/P1.0, 14 TA0/P1.1, 15 TA1/P1.2, 16 TA2/P1.3, 17 SMCLK/TCK/P1.4, 18 TMS/TA0/P1.5, 19 TDI/TCLK/TA1/P1.6, 20 TDO/TDI/TA2/P1.7

## MSP430F1122IRHB
designator *  value MSP430F1122IRHB  Reference: U
4kB + 256B Flash, 256B RAM, QFN-32; ki_keywords: TI MSP430 16-bit mixed signal microcontroller; ki_fp_filters: Texas*VQFN*1EP*5x5mm*P0.5mm*; Footprint: Package_DFN_QFN:Texas_RHB0032E_VQFN-32-1EP_5x5mm_P0.5mm_EP3.45x3.45mm; Datasheet: http://www.ti.com/lit/ds/symlink/msp430f1122.pdf; Description_: 4kB + 256B Flash, 256B RAM, QFN-32
pins: 1 VSS, 2 XOUT, 3 XIN, 5 ~{{RST}/NMI}, 6 P2.0/A0/ACLK, 7 P2.1/A1/INCLK, 8 P2.2/A2/TA0, 18 P2.3/A3/VREF-/VeREF-/TA1, 19 P2.4/A4/VREF+/VeREF+/TA2, 21 TACLK/ADC10CLK/P1.0, 22 TA0/P1.1, 23 TA1/P1.2, 24 TA2/P1.3, 25 SMCLK/TCK/P1.4, 26 TMS/TA0/P1.5, 27 TDI/TCLK/TA1/P1.6, 28 TDO/TDI/TA2/P1.7, 29 TEST, 30 VCC, 32 P2.5/Rosc

## MSP430F1132IDW
designator *  value MSP430F1132IDW  Reference: U
8kB + 256B Flash, 256B RAM, SOWB-20; ki_keywords: TI MSP430 16-bit mixed signal microcontroller; ki_fp_filters: SOIC*7.5x17.9mm*P1.27mm*; Footprint: Package_SO:SOIC-28W_7.5x17.9mm_P1.27mm; Datasheet: http://www.ti.com/lit/ds/symlink/msp430f1132.pdf; Description_: 8kB + 256B Flash, 256B RAM, SOWB-20
pins: 1 TEST, 2 VCC, 3 P2.5/Rosc, 4 VSS, 5 XOUT, 6 XIN, 7 ~{{RST}/NMI}, 8 P2.0/A0/ACLK, 9 P2.1/A1/INCLK, 10 P2.2/A2/TA0, 11 P2.3/A3/VREF-/VeREF-/TA1, 12 P2.4/A4/VREF+/VeREF+/TA2, 13 TACLK/ADC10CLK/P1.0, 14 TA0/P1.1, 15 TA1/P1.2, 16 TA2/P1.3, 17 SMCLK/TCK/P1.4, 18 TMS/TA0/P1.5, 19 TDI/TCLK/TA1/P1.6, 20 TDO/TDI/TA2/P1.7

## MSP430F1132IPW
designator *  value MSP430F1132IPW  Reference: U
8kB + 256B Flash, 256B RAM, TSSOP-20; ki_keywords: TI MSP430 16-bit mixed signal microcontroller; ki_fp_filters: TSSOP*4.4x9.7mm*P0.65mm*; Footprint: Package_SO:TSSOP-28_4.4x9.7mm_P0.65mm; Datasheet: http://www.ti.com/lit/ds/symlink/msp430f1132.pdf; Description_: 8kB + 256B Flash, 256B RAM, TSSOP-20
pins: 1 TEST, 2 VCC, 3 P2.5/Rosc, 4 VSS, 5 XOUT, 6 XIN, 7 ~{{RST}/NMI}, 8 P2.0/A0/ACLK, 9 P2.1/A1/INCLK, 10 P2.2/A2/TA0, 11 P2.3/A3/VREF-/VeREF-/TA1, 12 P2.4/A4/VREF+/VeREF+/TA2, 13 TACLK/ADC10CLK/P1.0, 14 TA0/P1.1, 15 TA1/P1.2, 16 TA2/P1.3, 17 SMCLK/TCK/P1.4, 18 TMS/TA0/P1.5, 19 TDI/TCLK/TA1/P1.6, 20 TDO/TDI/TA2/P1.7

## MSP430F1132IRHB
designator *  value MSP430F1132IRHB  Reference: U
8kB + 256B Flash, 256B RAM, QFN-32; ki_keywords: TI MSP430 16-bit mixed signal microcontroller; ki_fp_filters: Texas*VQFN*1EP*5x5mm*P0.5mm*; Footprint: Package_DFN_QFN:Texas_RHB0032E_VQFN-32-1EP_5x5mm_P0.5mm_EP3.45x3.45mm; Datasheet: http://www.ti.com/lit/ds/symlink/msp430f1132.pdf; Description_: 8kB + 256B Flash, 256B RAM, QFN-32
pins: 1 VSS, 2 XOUT, 3 XIN, 5 ~{{RST}/NMI}, 6 P2.0/A0/ACLK, 7 P2.1/A1/INCLK, 8 P2.2/A2/TA0, 18 P2.3/A3/VREF-/VeREF-/TA1, 19 P2.4/A4/VREF+/VeREF+/TA2, 21 TACLK/ADC10CLK/P1.0, 22 TA0/P1.1, 23 TA1/P1.2, 24 TA2/P1.3, 25 SMCLK/TCK/P1.4, 26 TMS/TA0/P1.5, 27 TDI/TCLK/TA1/P1.6, 28 TDO/TDI/TA2/P1.7, 29 TEST, 30 VCC, 32 P2.5/Rosc

## MSP430F1222IDW
designator *  value MSP430F1222IDW  Reference: U
4kB + 256B Flash, 256B RAM, SOWB-28; ki_keywords: TI MSP430 16-bit mixed signal microcontroller; ki_fp_filters: SOIC*7.5x17.9mm*P1.27mm*; Footprint: Package_SO:SOIC-28W_7.5x17.9mm_P1.27mm; Datasheet: http://www.ti.com/lit/ds/symlink/msp430f1222.pdf; Description_: 4kB + 256B Flash, 256B RAM, SOWB-28
pins: 1 TEST, 2 VCC, 3 Rosc/P2.5, 4 VSS, 5 XOUT, 6 XIN, 7 ~{{RST}/NMI}, 8 ACLK/A0/P2.0, 9 INCLK/A1/P2.1, 10 TA0/A2/P2.2, 11 P3.0/A5/STE0, 12 P3.1/SIMO0, 13 P3.2/SOMI0, 14 P3.3/UCLK0, 15 P3.4/UTXD0, 16 P3.5/URXD0, 17 P3.6/A6, 18 P3.7/A7, 19 TA1/VeREF-/VREF-/A3/P2.3, 20 TA2/VeREF+/VREF+/A4/P2.4, 21 TACLK/ADC10CLK/P1.0, 22 TA0/P1.1, 23 TA1/P1.2, 24 TA2/P1.3, 25 SMCLK/TCK/P1.4, 26 TMS/TA0/P1.5, 27 TDI/TCLK/TA1/P1.6, 28 TDO/TDI/TA2/P1.7

## MSP430F1222IPW
designator *  value MSP430F1222IPW  Reference: U
4kB + 256B Flash, 256B RAM, TSSOP-28; ki_keywords: TI MSP430 16-bit mixed signal microcontroller; ki_fp_filters: TSSOP*4.4x9.7mm*P0.65mm*; Footprint: Package_SO:TSSOP-28_4.4x9.7mm_P0.65mm; Datasheet: http://www.ti.com/lit/ds/symlink/msp430f1222.pdf; Description_: 4kB + 256B Flash, 256B RAM, TSSOP-28
pins: 1 TEST, 2 VCC, 3 Rosc/P2.5, 4 VSS, 5 XOUT, 6 XIN, 7 ~{{RST}/NMI}, 8 ACLK/A0/P2.0, 9 INCLK/A1/P2.1, 10 TA0/A2/P2.2, 11 P3.0/A5/STE0, 12 P3.1/SIMO0, 13 P3.2/SOMI0, 14 P3.3/UCLK0, 15 P3.4/UTXD0, 16 P3.5/URXD0, 17 P3.6/A6, 18 P3.7/A7, 19 TA1/VeREF-/VREF-/A3/P2.3, 20 TA2/VeREF+/VREF+/A4/P2.4, 21 TACLK/ADC10CLK/P1.0, 22 TA0/P1.1, 23 TA1/P1.2, 24 TA2/P1.3, 25 SMCLK/TCK/P1.4, 26 TMS/TA0/P1.5, 27 TDI/TCLK/TA1/P1.6, 28 TDO/TDI/TA2/P1.7

## MSP430F1222IRHB
designator *  value MSP430F1222IRHB  Reference: U
4kB + 256B Flash, 256B RAM, QFN-32; ki_keywords: TI MSP430 16-bit mixed signal microcontroller; ki_fp_filters: Texas*VQFN*1EP*5x5mm*P0.5mm*; Footprint: Package_DFN_QFN:Texas_RHB0032E_VQFN-32-1EP_5x5mm_P0.5mm_EP3.45x3.45mm; Datasheet: http://www.ti.com/lit/ds/symlink/msp430f1222.pdf; Description_: 4kB + 256B Flash, 256B RAM, QFN-32
pins: 1 VSS, 2 XOUT, 3 XIN, 5 ~{{RST}/NMI}, 6 ACLK/A0/P2.0, 7 INCLK/A1/P2.1, 8 TA0/A2/P2.2, 9 P3.0/A5/STE0, 10 P3.1/SIMO0, 11 P3.2/SOMI0, 12 P3.3/UCLK0, 13 P3.4/UTXD0, 14 P3.5/URXD0, 15 P3.6/A6, 16 P3.7/A7, 18 TA1/VeREF-/VREF-/A3/P2.3, 19 TA2/VeREF+/VREF+/A4/P2.4, 21 TACLK/ADC10CLK/P1.0, 22 TA0/P1.1, 23 TA1/P1.2, 24 TA2/P1.3, 25 SMCLK/TCK/P1.4, 26 TMS/TA0/P1.5, 27 TDI/TCLK/TA1/P1.6, 28 TDO/TDI/TA2/P1.7, 29 TEST, 30 VCC, 32 Rosc/P2.5

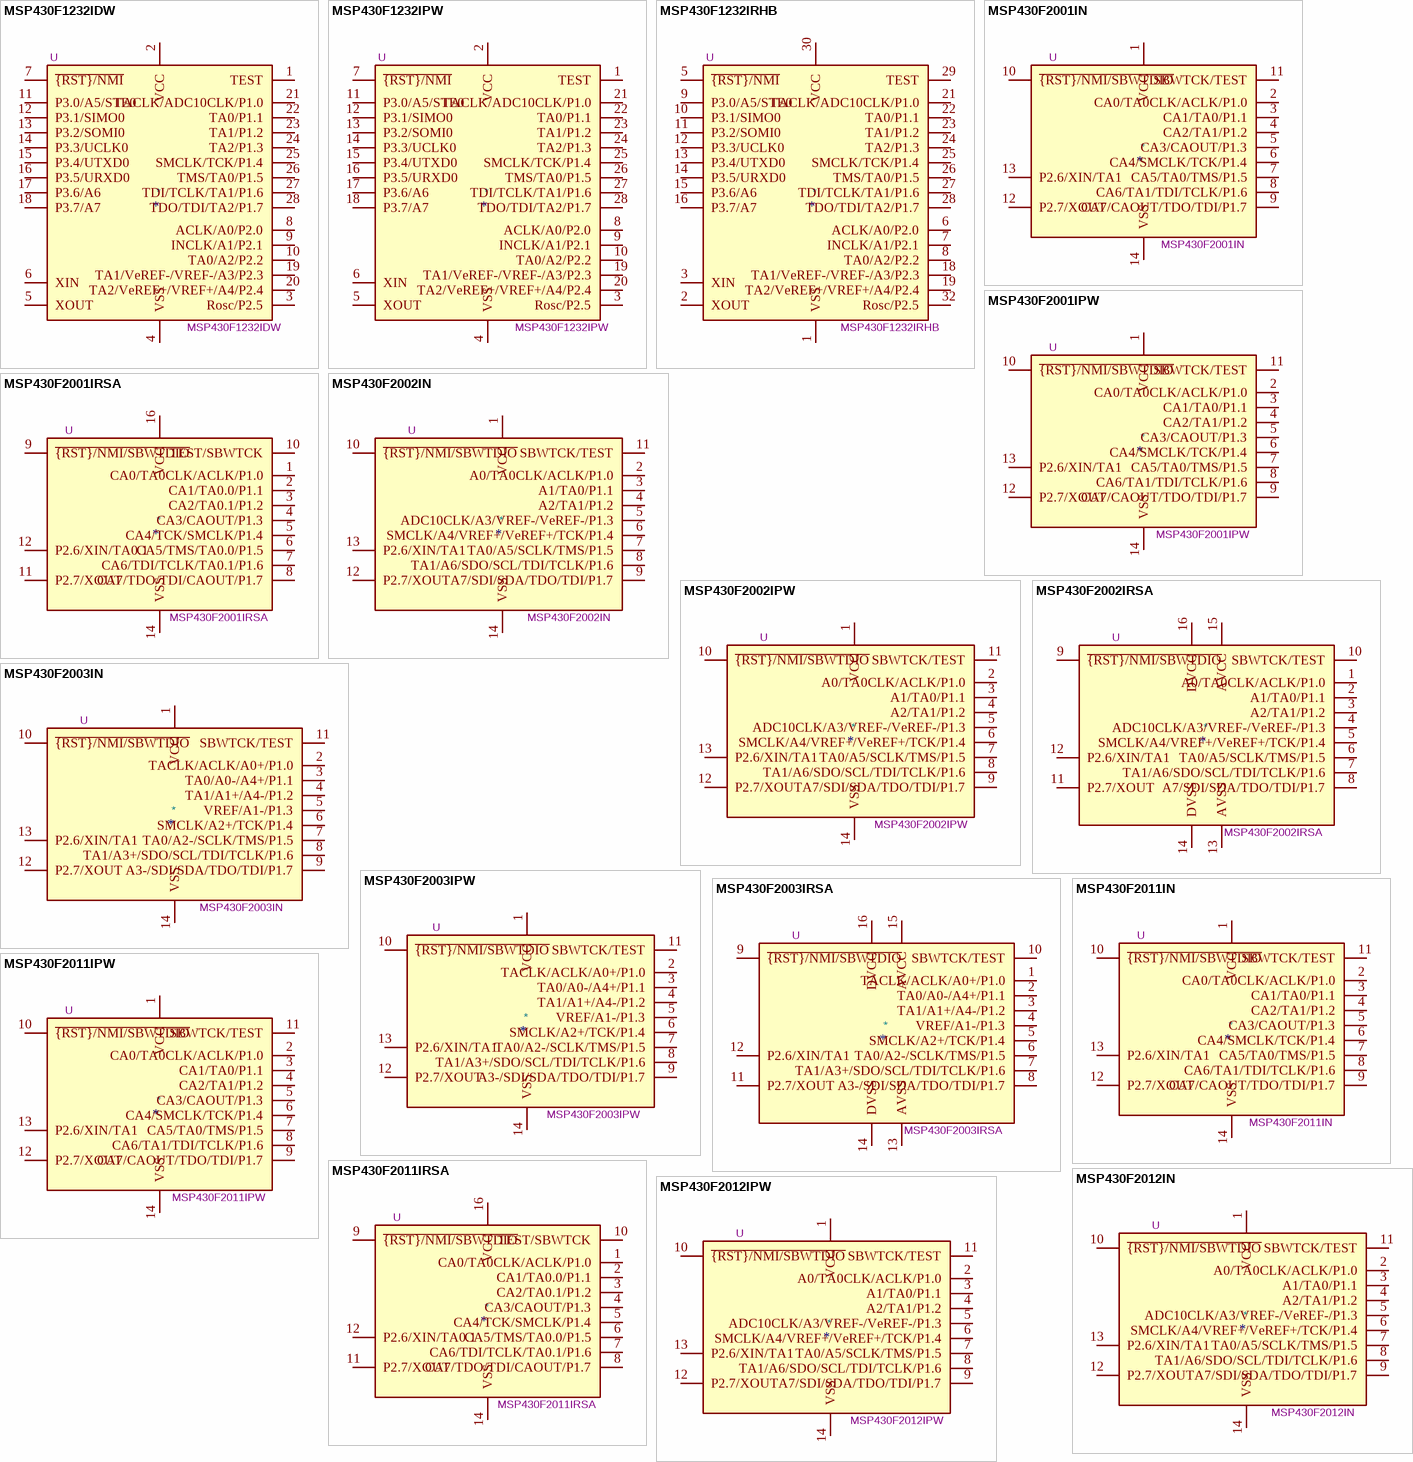
[diagram p2: symbols MSP430F1232IDW to MSP430F2012IPW]

## MSP430F1232IDW
designator *  value MSP430F1232IDW  Reference: U
8kB + 256B Flash, 256B RAM, SOWB-28; ki_keywords: TI MSP430 16-bit mixed signal microcontroller; ki_fp_filters: SOIC*7.5x17.9mm*P1.27mm*; Footprint: Package_SO:SOIC-28W_7.5x17.9mm_P1.27mm; Datasheet: http://www.ti.com/lit/ds/symlink/msp430f1232.pdf; Description_: 8kB + 256B Flash, 256B RAM, SOWB-28
pins: 1 TEST, 2 VCC, 3 Rosc/P2.5, 4 VSS, 5 XOUT, 6 XIN, 7 ~{{RST}/NMI}, 8 ACLK/A0/P2.0, 9 INCLK/A1/P2.1, 10 TA0/A2/P2.2, 11 P3.0/A5/STE0, 12 P3.1/SIMO0, 13 P3.2/SOMI0, 14 P3.3/UCLK0, 15 P3.4/UTXD0, 16 P3.5/URXD0, 17 P3.6/A6, 18 P3.7/A7, 19 TA1/VeREF-/VREF-/A3/P2.3, 20 TA2/VeREF+/VREF+/A4/P2.4, 21 TACLK/ADC10CLK/P1.0, 22 TA0/P1.1, 23 TA1/P1.2, 24 TA2/P1.3, 25 SMCLK/TCK/P1.4, 26 TMS/TA0/P1.5, 27 TDI/TCLK/TA1/P1.6, 28 TDO/TDI/TA2/P1.7

## MSP430F1232IPW
designator *  value MSP430F1232IPW  Reference: U
8kB + 256B Flash, 256B RAM, TSSOP-28; ki_keywords: TI MSP430 16-bit mixed signal microcontroller; ki_fp_filters: TSSOP*4.4x9.7mm*P0.65mm*; Footprint: Package_SO:TSSOP-28_4.4x9.7mm_P0.65mm; Datasheet: http://www.ti.com/lit/ds/symlink/msp430f1232.pdf; Description_: 8kB + 256B Flash, 256B RAM, TSSOP-28
pins: 1 TEST, 2 VCC, 3 Rosc/P2.5, 4 VSS, 5 XOUT, 6 XIN, 7 ~{{RST}/NMI}, 8 ACLK/A0/P2.0, 9 INCLK/A1/P2.1, 10 TA0/A2/P2.2, 11 P3.0/A5/STE0, 12 P3.1/SIMO0, 13 P3.2/SOMI0, 14 P3.3/UCLK0, 15 P3.4/UTXD0, 16 P3.5/URXD0, 17 P3.6/A6, 18 P3.7/A7, 19 TA1/VeREF-/VREF-/A3/P2.3, 20 TA2/VeREF+/VREF+/A4/P2.4, 21 TACLK/ADC10CLK/P1.0, 22 TA0/P1.1, 23 TA1/P1.2, 24 TA2/P1.3, 25 SMCLK/TCK/P1.4, 26 TMS/TA0/P1.5, 27 TDI/TCLK/TA1/P1.6, 28 TDO/TDI/TA2/P1.7

## MSP430F1232IRHB
designator *  value MSP430F1232IRHB  Reference: U
8kB + 256B Flash, 256B RAM, QFN-32; ki_keywords: TI MSP430 16-bit mixed signal microcontroller; ki_fp_filters: Texas*VQFN*1EP*5x5mm*P0.5mm*; Footprint: Package_DFN_QFN:Texas_RHB0032E_VQFN-32-1EP_5x5mm_P0.5mm_EP3.45x3.45mm; Datasheet: http://www.ti.com/lit/ds/symlink/msp430f1232.pdf; Description_: 8kB + 256B Flash, 256B RAM, QFN-32
pins: 1 VSS, 2 XOUT, 3 XIN, 5 ~{{RST}/NMI}, 6 ACLK/A0/P2.0, 7 INCLK/A1/P2.1, 8 TA0/A2/P2.2, 9 P3.0/A5/STE0, 10 P3.1/SIMO0, 11 P3.2/SOMI0, 12 P3.3/UCLK0, 13 P3.4/UTXD0, 14 P3.5/URXD0, 15 P3.6/A6, 16 P3.7/A7, 18 TA1/VeREF-/VREF-/A3/P2.3, 19 TA2/VeREF+/VREF+/A4/P2.4, 21 TACLK/ADC10CLK/P1.0, 22 TA0/P1.1, 23 TA1/P1.2, 24 TA2/P1.3, 25 SMCLK/TCK/P1.4, 26 TMS/TA0/P1.5, 27 TDI/TCLK/TA1/P1.6, 28 TDO/TDI/TA2/P1.7, 29 TEST, 30 VCC, 32 Rosc/P2.5

## MSP430F2001IN
designator *  value MSP430F2001IN  Reference: U
1kB + 256B Flash, 128B RAM, DIP-14; ki_keywords: TI MSP430 16-bit mixed signal microcontroller; ki_fp_filters: DIP*W7.62mm*; Footprint: Package_DIP:DIP-14_W7.62mm; Datasheet: http://www.ti.com/lit/ds/symlink/msp430f2001.pdf; Description_: 1kB + 256B Flash, 128B RAM, DIP-14
pins: 1 VCC, 2 CA0/TA0CLK/ACLK/P1.0, 3 CA1/TA0/P1.1, 4 CA2/TA1/P1.2, 5 CA3/CAOUT/P1.3, 6 CA4/SMCLK/TCK/P1.4, 7 CA5/TA0/TMS/P1.5, 8 CA6/TA1/TDI/TCLK/P1.6, 9 CA7/CAOUT/TDO/TDI/P1.7, 10 ~{{RST}/NMI/SBWTDIO}, 11 SBWTCK/TEST, 12 P2.7/XOUT, 13 P2.6/XIN/TA1, 14 VSS

## MSP430F2001IPW
designator *  value MSP430F2001IPW  Reference: U
1kB + 256B Flash, 128B RAM, TSSOP-14; ki_keywords: TI MSP430 16-bit mixed signal microcontroller; ki_fp_filters: TSSOP*4.4x5mm*P0.65mm*; Footprint: Package_SO:TSSOP-14_4.4x5mm_P0.65mm; Datasheet: http://www.ti.com/lit/ds/symlink/msp430f2001.pdf; Description_: 1kB + 256B Flash, 128B RAM, TSSOP-14
pins: 1 VCC, 2 CA0/TA0CLK/ACLK/P1.0, 3 CA1/TA0/P1.1, 4 CA2/TA1/P1.2, 5 CA3/CAOUT/P1.3, 6 CA4/SMCLK/TCK/P1.4, 7 CA5/TA0/TMS/P1.5, 8 CA6/TA1/TDI/TCLK/P1.6, 9 CA7/CAOUT/TDO/TDI/P1.7, 10 ~{{RST}/NMI/SBWTDIO}, 11 SBWTCK/TEST, 12 P2.7/XOUT, 13 P2.6/XIN/TA1, 14 VSS

## MSP430F2001IRSA
designator *  value MSP430F2001IRSA  Reference: U
1kB + 256B Flash, 128B RAM, QFN-16; ki_keywords: TI MSP430 16-bit mixed signal microcontroller; ki_fp_filters: Texas*RSA*EP2.7x2.7mm*; Footprint: Package_DFN_QFN:Texas_RSA_VQFN-16-1EP_4x4mm_P0.65mm_EP2.7x2.7mm; Datasheet: http://www.ti.com/lit/ds/symlink/msp430f2001.pdf; Description_: 1kB + 256B Flash, 128B RAM, QFN-16
pins: 1 CA0/TA0CLK/ACLK/P1.0, 2 CA1/TA0.0/P1.1, 3 CA2/TA0.1/P1.2, 4 CA3/CAOUT/P1.3, 5 CA4/TCK/SMCLK/P1.4, 6 CA5/TMS/TA0.0/P1.5, 7 CA6/TDI/TCLK/TA0.1/P1.6, 8 CA7/TDO/TDI/CAOUT/P1.7, 9 ~{{RST}/NMI/SBWTDIO}, 10 TEST/SBWTCK, 11 P2.7/XOUT, 12 P2.6/XIN/TA0.1, 14 VSS, 16 VCC

## MSP430F2002IN
designator *  value MSP430F2002IN  Reference: U
1kB + 256B Flash, 128B RAM, DIP-14; ki_keywords: TI MSP430 16-bit mixed signal microcontroller; ki_fp_filters: DIP*W7.62mm*; Footprint: Package_DIP:DIP-14_W7.62mm; Datasheet: http://www.ti.com/lit/ds/symlink/msp430f2002.pdf; Description_: 1kB + 256B Flash, 128B RAM, DIP-14
pins: 1 VCC, 2 A0/TA0CLK/ACLK/P1.0, 3 A1/TA0/P1.1, 4 A2/TA1/P1.2, 5 ADC10CLK/A3/VREF-/VeREF-/P1.3, 6 SMCLK/A4/VREF+/VeREF+/TCK/P1.4, 7 TA0/A5/SCLK/TMS/P1.5, 8 TA1/A6/SDO/SCL/TDI/TCLK/P1.6, 9 A7/SDI/SDA/TDO/TDI/P1.7, 10 ~{{RST}/NMI/SBWTDIO}, 11 SBWTCK/TEST, 12 P2.7/XOUT, 13 P2.6/XIN/TA1, 14 VSS

## MSP430F2002IPW
designator *  value MSP430F2002IPW  Reference: U
1kB + 256B Flash, 128B RAM, TSSOP-14; ki_keywords: TI MSP430 16-bit mixed signal microcontroller; ki_fp_filters: TSSOP*4.4x5mm*P0.65mm*; Footprint: Package_SO:TSSOP-14_4.4x5mm_P0.65mm; Datasheet: http://www.ti.com/lit/ds/symlink/msp430f2002.pdf; Description_: 1kB + 256B Flash, 128B RAM, TSSOP-14
pins: 1 VCC, 2 A0/TA0CLK/ACLK/P1.0, 3 A1/TA0/P1.1, 4 A2/TA1/P1.2, 5 ADC10CLK/A3/VREF-/VeREF-/P1.3, 6 SMCLK/A4/VREF+/VeREF+/TCK/P1.4, 7 TA0/A5/SCLK/TMS/P1.5, 8 TA1/A6/SDO/SCL/TDI/TCLK/P1.6, 9 A7/SDI/SDA/TDO/TDI/P1.7, 10 ~{{RST}/NMI/SBWTDIO}, 11 SBWTCK/TEST, 12 P2.7/XOUT, 13 P2.6/XIN/TA1, 14 VSS

## MSP430F2002IRSA
designator *  value MSP430F2002IRSA  Reference: U
1kB + 256B Flash, 128B RAM, QFN-16; ki_keywords: TI MSP430 16-bit mixed signal microcontroller; ki_fp_filters: Texas*RSA*EP2.7x2.7mm*; Footprint: Package_DFN_QFN:Texas_RSA_VQFN-16-1EP_4x4mm_P0.65mm_EP2.7x2.7mm; Datasheet: http://www.ti.com/lit/ds/symlink/msp430f2002.pdf; Description_: 1kB + 256B Flash, 128B RAM, QFN-16
pins: 1 A0/TA0CLK/ACLK/P1.0, 2 A1/TA0/P1.1, 3 A2/TA1/P1.2, 4 ADC10CLK/A3/VREF-/VeREF-/P1.3, 5 SMCLK/A4/VREF+/VeREF+/TCK/P1.4, 6 TA0/A5/SCLK/TMS/P1.5, 7 TA1/A6/SDO/SCL/TDI/TCLK/P1.6, 8 A7/SDI/SDA/TDO/TDI/P1.7, 9 ~{{RST}/NMI/SBWTDIO}, 10 SBWTCK/TEST, 11 P2.7/XOUT, 12 P2.6/XIN/TA1, 13 AVSS, 14 DVSS, 15 AVCC, 16 DVCC

## MSP430F2003IN
designator *  value MSP430F2003IN  Reference: U
1kB + 256B Flash, 128B RAM, DIP-14; ki_keywords: TI MSP430 16-bit mixed signal microcontroller; ki_fp_filters: DIP*W7.62mm*; Footprint: Package_DIP:DIP-14_W7.62mm; Datasheet: http://www.ti.com/lit/ds/symlink/msp430f2003.pdf; Description_: 1kB + 256B Flash, 128B RAM, DIP-14
pins: 1 VCC, 2 TACLK/ACLK/A0+/P1.0, 3 TA0/A0-/A4+/P1.1, 4 TA1/A1+/A4-/P1.2, 5 VREF/A1-/P1.3, 6 SMCLK/A2+/TCK/P1.4, 7 TA0/A2-/SCLK/TMS/P1.5, 8 TA1/A3+/SDO/SCL/TDI/TCLK/P1.6, 9 A3-/SDI/SDA/TDO/TDI/P1.7, 10 ~{{RST}/NMI/SBWTDIO}, 11 SBWTCK/TEST, 12 P2.7/XOUT, 13 P2.6/XIN/TA1, 14 VSS

## MSP430F2003IPW
designator *  value MSP430F2003IPW  Reference: U
1kB + 256B Flash, 128B RAM, TSSOP-14; ki_keywords: TI MSP430 16-bit mixed signal microcontroller; ki_fp_filters: TSSOP*4.4x5mm*P0.65mm*; Footprint: Package_SO:TSSOP-14_4.4x5mm_P0.65mm; Datasheet: http://www.ti.com/lit/ds/symlink/msp430f2003.pdf; Description_: 1kB + 256B Flash, 128B RAM, TSSOP-14
pins: 1 VCC, 2 TACLK/ACLK/A0+/P1.0, 3 TA0/A0-/A4+/P1.1, 4 TA1/A1+/A4-/P1.2, 5 VREF/A1-/P1.3, 6 SMCLK/A2+/TCK/P1.4, 7 TA0/A2-/SCLK/TMS/P1.5, 8 TA1/A3+/SDO/SCL/TDI/TCLK/P1.6, 9 A3-/SDI/SDA/TDO/TDI/P1.7, 10 ~{{RST}/NMI/SBWTDIO}, 11 SBWTCK/TEST, 12 P2.7/XOUT, 13 P2.6/XIN/TA1, 14 VSS

## MSP430F2003IRSA
designator *  value MSP430F2003IRSA  Reference: U
1kB + 256B Flash, 128B RAM, QFN-16; ki_keywords: TI MSP430 16-bit mixed signal microcontroller; ki_fp_filters: Texas*RSA*EP2.7x2.7mm*; Footprint: Package_DFN_QFN:Texas_RSA_VQFN-16-1EP_4x4mm_P0.65mm_EP2.7x2.7mm; Datasheet: http://www.ti.com/lit/ds/symlink/msp430f2003.pdf; Description_: 1kB + 256B Flash, 128B RAM, QFN-16
pins: 1 TACLK/ACLK/A0+/P1.0, 2 TA0/A0-/A4+/P1.1, 3 TA1/A1+/A4-/P1.2, 4 VREF/A1-/P1.3, 5 SMCLK/A2+/TCK/P1.4, 6 TA0/A2-/SCLK/TMS/P1.5, 7 TA1/A3+/SDO/SCL/TDI/TCLK/P1.6, 8 A3-/SDI/SDA/TDO/TDI/P1.7, 9 ~{{RST}/NMI/SBWTDIO}, 10 SBWTCK/TEST, 11 P2.7/XOUT, 12 P2.6/XIN/TA1, 13 AVSS, 14 DVSS, 15 AVCC, 16 DVCC

## MSP430F2011IN
designator *  value MSP430F2011IN  Reference: U
2kB + 256B Flash, 128B RAM, DIP-14; ki_keywords: TI MSP430 16-bit mixed signal microcontroller; ki_fp_filters: DIP*W7.62mm*; Footprint: Package_DIP:DIP-14_W7.62mm; Datasheet: http://www.ti.com/lit/ds/symlink/msp430f2011.pdf; Description_: 2kB + 256B Flash, 128B RAM, DIP-14
pins: 1 VCC, 2 CA0/TA0CLK/ACLK/P1.0, 3 CA1/TA0/P1.1, 4 CA2/TA1/P1.2, 5 CA3/CAOUT/P1.3, 6 CA4/SMCLK/TCK/P1.4, 7 CA5/TA0/TMS/P1.5, 8 CA6/TA1/TDI/TCLK/P1.6, 9 CA7/CAOUT/TDO/TDI/P1.7, 10 ~{{RST}/NMI/SBWTDIO}, 11 SBWTCK/TEST, 12 P2.7/XOUT, 13 P2.6/XIN/TA1, 14 VSS

## MSP430F2011IPW
designator *  value MSP430F2011IPW  Reference: U
2kB + 256B Flash, 128B RAM, TSSOP-14; ki_keywords: TI MSP430 16-bit mixed signal microcontroller; ki_fp_filters: TSSOP*4.4x5mm*P0.65mm*; Footprint: Package_SO:TSSOP-14_4.4x5mm_P0.65mm; Datasheet: http://www.ti.com/lit/ds/symlink/msp430f2011.pdf; Description_: 2kB + 256B Flash, 128B RAM, TSSOP-14
pins: 1 VCC, 2 CA0/TA0CLK/ACLK/P1.0, 3 CA1/TA0/P1.1, 4 CA2/TA1/P1.2, 5 CA3/CAOUT/P1.3, 6 CA4/SMCLK/TCK/P1.4, 7 CA5/TA0/TMS/P1.5, 8 CA6/TA1/TDI/TCLK/P1.6, 9 CA7/CAOUT/TDO/TDI/P1.7, 10 ~{{RST}/NMI/SBWTDIO}, 11 SBWTCK/TEST, 12 P2.7/XOUT, 13 P2.6/XIN/TA1, 14 VSS

## MSP430F2011IRSA
designator *  value MSP430F2011IRSA  Reference: U
2kB + 256B Flash, 128B RAM, QFN-16; ki_keywords: TI MSP430 16-bit mixed signal microcontroller; ki_fp_filters: Texas*RSA*EP2.7x2.7mm*; Footprint: Package_DFN_QFN:Texas_RSA_VQFN-16-1EP_4x4mm_P0.65mm_EP2.7x2.7mm; Datasheet: http://www.ti.com/lit/ds/symlink/msp430f2011.pdf; Description_: 2kB + 256B Flash, 128B RAM, QFN-16
pins: 1 CA0/TA0CLK/ACLK/P1.0, 2 CA1/TA0.0/P1.1, 3 CA2/TA0.1/P1.2, 4 CA3/CAOUT/P1.3, 5 CA4/TCK/SMCLK/P1.4, 6 CA5/TMS/TA0.0/P1.5, 7 CA6/TDI/TCLK/TA0.1/P1.6, 8 CA7/TDO/TDI/CAOUT/P1.7, 9 ~{{RST}/NMI/SBWTDIO}, 10 TEST/SBWTCK, 11 P2.7/XOUT, 12 P2.6/XIN/TA0.1, 14 VSS, 16 VCC

## MSP430F2012IN
designator *  value MSP430F2012IN  Reference: U
2kB + 256B Flash, 128B RAM, DIP-14; ki_keywords: TI MSP430 16-bit mixed signal microcontroller; ki_fp_filters: DIP*W7.62mm*; Footprint: Package_DIP:DIP-14_W7.62mm; Datasheet: http://www.ti.com/lit/ds/symlink/msp430f2012.pdf; Description_: 2kB + 256B Flash, 128B RAM, DIP-14
pins: 1 VCC, 2 A0/TA0CLK/ACLK/P1.0, 3 A1/TA0/P1.1, 4 A2/TA1/P1.2, 5 ADC10CLK/A3/VREF-/VeREF-/P1.3, 6 SMCLK/A4/VREF+/VeREF+/TCK/P1.4, 7 TA0/A5/SCLK/TMS/P1.5, 8 TA1/A6/SDO/SCL/TDI/TCLK/P1.6, 9 A7/SDI/SDA/TDO/TDI/P1.7, 10 ~{{RST}/NMI/SBWTDIO}, 11 SBWTCK/TEST, 12 P2.7/XOUT, 13 P2.6/XIN/TA1, 14 VSS

## MSP430F2012IPW
designator *  value MSP430F2012IPW  Reference: U
2kB + 256B Flash, 128B RAM, TSSOP-14; ki_keywords: TI MSP430 16-bit mixed signal microcontroller; ki_fp_filters: TSSOP*4.4x5mm*P0.65mm*; Footprint: Package_SO:TSSOP-14_4.4x5mm_P0.65mm; Datasheet: http://www.ti.com/lit/ds/symlink/msp430f2012.pdf; Description_: 2kB + 256B Flash, 128B RAM, TSSOP-14
pins: 1 VCC, 2 A0/TA0CLK/ACLK/P1.0, 3 A1/TA0/P1.1, 4 A2/TA1/P1.2, 5 ADC10CLK/A3/VREF-/VeREF-/P1.3, 6 SMCLK/A4/VREF+/VeREF+/TCK/P1.4, 7 TA0/A5/SCLK/TMS/P1.5, 8 TA1/A6/SDO/SCL/TDI/TCLK/P1.6, 9 A7/SDI/SDA/TDO/TDI/P1.7, 10 ~{{RST}/NMI/SBWTDIO}, 11 SBWTCK/TEST, 12 P2.7/XOUT, 13 P2.6/XIN/TA1, 14 VSS

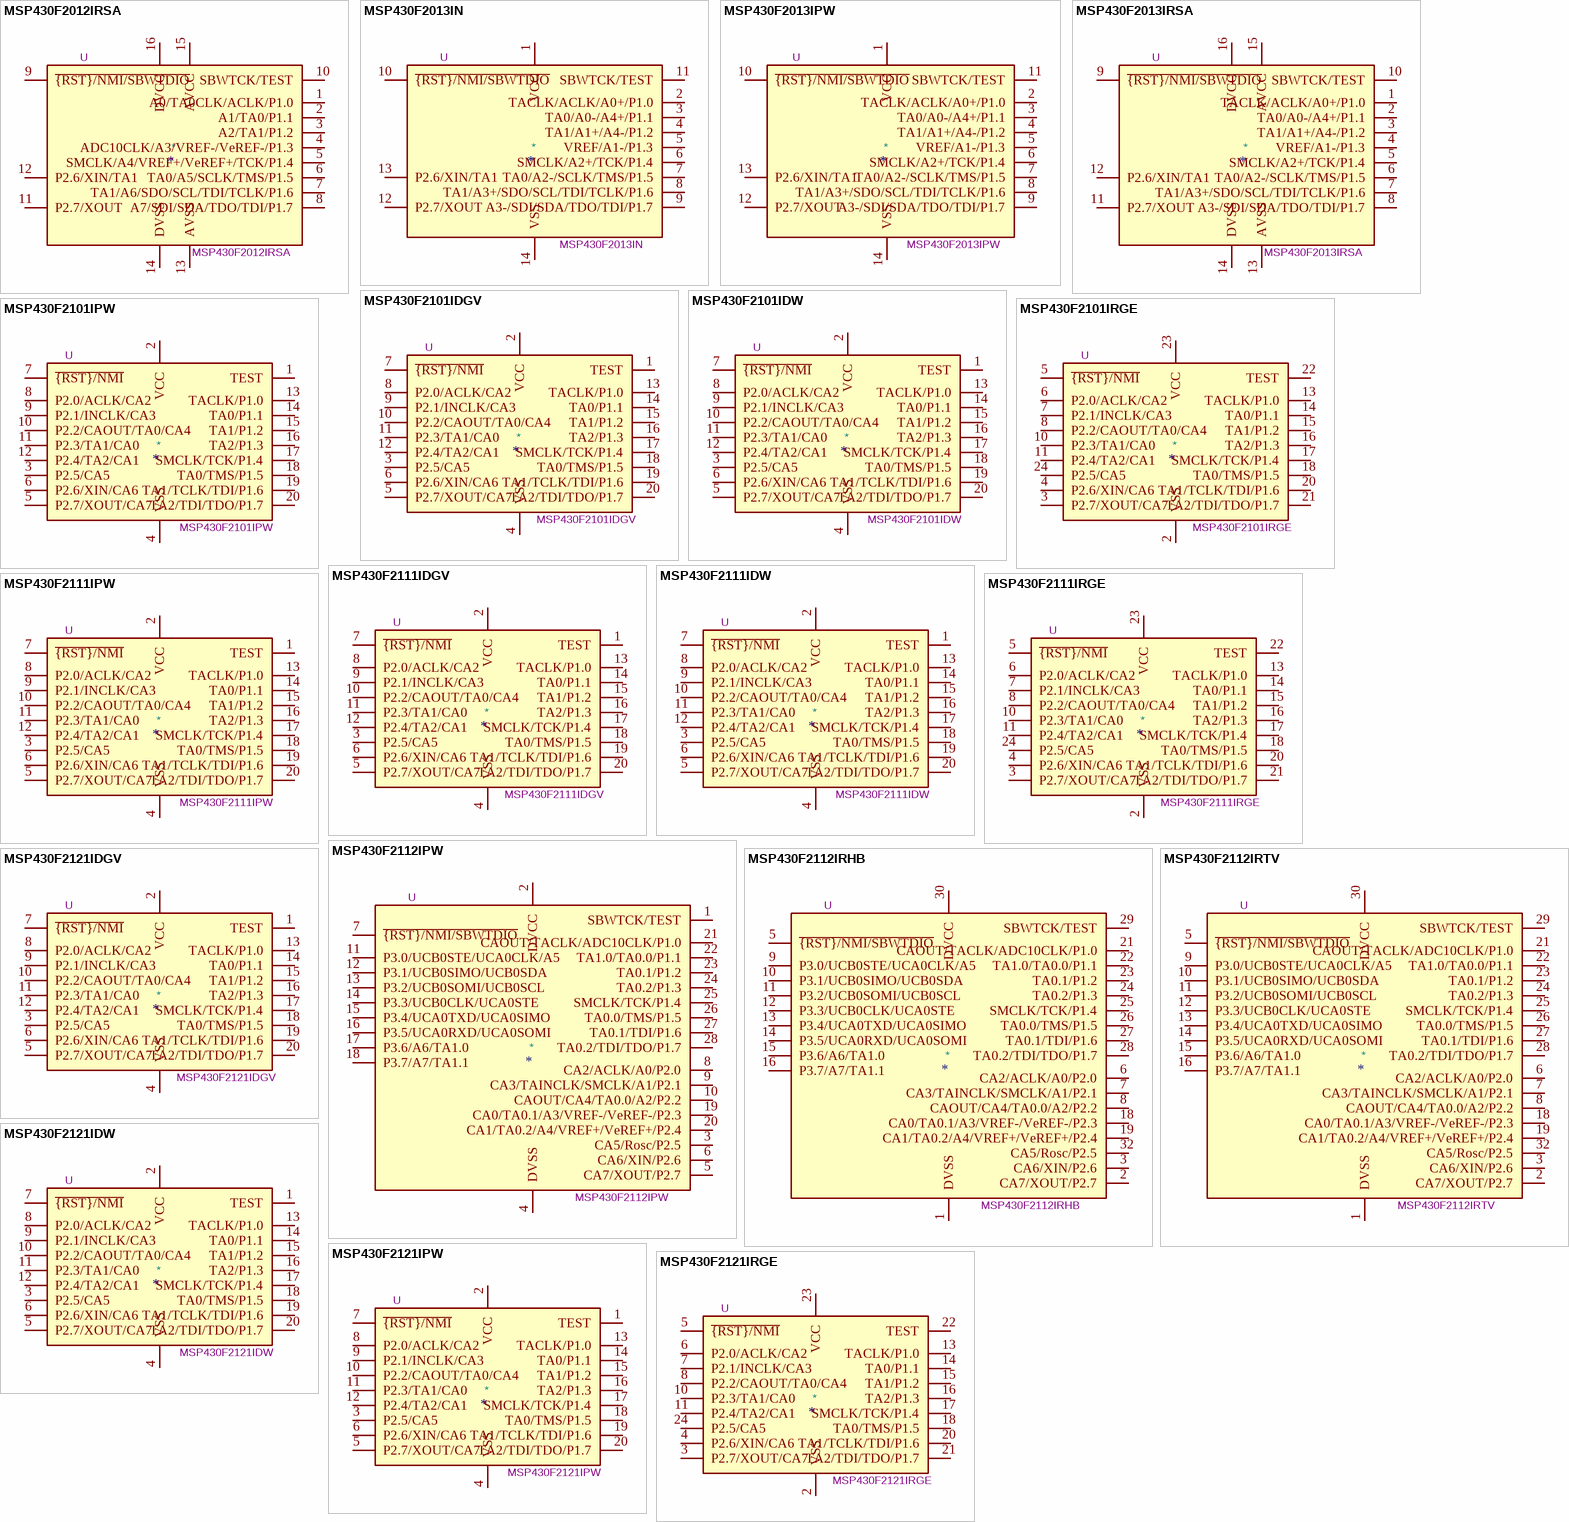
[diagram p3: symbols MSP430F2012IRSA to MSP430F2121IRGE]

## MSP430F2012IRSA
designator *  value MSP430F2012IRSA  Reference: U
2kB + 256B Flash, 128B RAM, QFN-16; ki_keywords: TI MSP430 16-bit mixed signal microcontroller; ki_fp_filters: Texas*RSA*EP2.7x2.7mm*; Footprint: Package_DFN_QFN:Texas_RSA_VQFN-16-1EP_4x4mm_P0.65mm_EP2.7x2.7mm; Datasheet: http://www.ti.com/lit/ds/symlink/msp430f2012.pdf; Description_: 2kB + 256B Flash, 128B RAM, QFN-16
pins: 1 A0/TA0CLK/ACLK/P1.0, 2 A1/TA0/P1.1, 3 A2/TA1/P1.2, 4 ADC10CLK/A3/VREF-/VeREF-/P1.3, 5 SMCLK/A4/VREF+/VeREF+/TCK/P1.4, 6 TA0/A5/SCLK/TMS/P1.5, 7 TA1/A6/SDO/SCL/TDI/TCLK/P1.6, 8 A7/SDI/SDA/TDO/TDI/P1.7, 9 ~{{RST}/NMI/SBWTDIO}, 10 SBWTCK/TEST, 11 P2.7/XOUT, 12 P2.6/XIN/TA1, 13 AVSS, 14 DVSS, 15 AVCC, 16 DVCC

## MSP430F2013IN
designator *  value MSP430F2013IN  Reference: U
2kB + 256B Flash, 128B RAM, DIP-14; ki_keywords: TI MSP430 16-bit mixed signal microcontroller; ki_fp_filters: DIP*W7.62mm*; Footprint: Package_DIP:DIP-14_W7.62mm; Datasheet: http://www.ti.com/lit/ds/symlink/msp430f2013.pdf; Description_: 2kB + 256B Flash, 128B RAM, DIP-14
pins: 1 VCC, 2 TACLK/ACLK/A0+/P1.0, 3 TA0/A0-/A4+/P1.1, 4 TA1/A1+/A4-/P1.2, 5 VREF/A1-/P1.3, 6 SMCLK/A2+/TCK/P1.4, 7 TA0/A2-/SCLK/TMS/P1.5, 8 TA1/A3+/SDO/SCL/TDI/TCLK/P1.6, 9 A3-/SDI/SDA/TDO/TDI/P1.7, 10 ~{{RST}/NMI/SBWTDIO}, 11 SBWTCK/TEST, 12 P2.7/XOUT, 13 P2.6/XIN/TA1, 14 VSS

## MSP430F2013IPW
designator *  value MSP430F2013IPW  Reference: U
2kB + 256B Flash, 128B RAM, TSSOP-14; ki_keywords: TI MSP430 16-bit mixed signal microcontroller; ki_fp_filters: TSSOP*4.4x5mm*P0.65mm*; Footprint: Package_SO:TSSOP-14_4.4x5mm_P0.65mm; Datasheet: http://www.ti.com/lit/ds/symlink/msp430f2013.pdf; Description_: 2kB + 256B Flash, 128B RAM, TSSOP-14
pins: 1 VCC, 2 TACLK/ACLK/A0+/P1.0, 3 TA0/A0-/A4+/P1.1, 4 TA1/A1+/A4-/P1.2, 5 VREF/A1-/P1.3, 6 SMCLK/A2+/TCK/P1.4, 7 TA0/A2-/SCLK/TMS/P1.5, 8 TA1/A3+/SDO/SCL/TDI/TCLK/P1.6, 9 A3-/SDI/SDA/TDO/TDI/P1.7, 10 ~{{RST}/NMI/SBWTDIO}, 11 SBWTCK/TEST, 12 P2.7/XOUT, 13 P2.6/XIN/TA1, 14 VSS

## MSP430F2013IRSA
designator *  value MSP430F2013IRSA  Reference: U
2kB + 256B Flash, 128B RAM, QFN-16; ki_keywords: TI MSP430 16-bit mixed signal microcontroller; ki_fp_filters: Texas*RSA*EP2.7x2.7mm*; Footprint: Package_DFN_QFN:Texas_RSA_VQFN-16-1EP_4x4mm_P0.65mm_EP2.7x2.7mm; Datasheet: http://www.ti.com/lit/ds/symlink/msp430f2013.pdf; Description_: 2kB + 256B Flash, 128B RAM, QFN-16
pins: 1 TACLK/ACLK/A0+/P1.0, 2 TA0/A0-/A4+/P1.1, 3 TA1/A1+/A4-/P1.2, 4 VREF/A1-/P1.3, 5 SMCLK/A2+/TCK/P1.4, 6 TA0/A2-/SCLK/TMS/P1.5, 7 TA1/A3+/SDO/SCL/TDI/TCLK/P1.6, 8 A3-/SDI/SDA/TDO/TDI/P1.7, 9 ~{{RST}/NMI/SBWTDIO}, 10 SBWTCK/TEST, 11 P2.7/XOUT, 12 P2.6/XIN/TA1, 13 AVSS, 14 DVSS, 15 AVCC, 16 DVCC

## MSP430F2101IDGV
designator *  value MSP430F2101IDGV  Reference: U
1kB + 256B Flash, 128B RAM, TVSOP-20; ki_keywords: TI MSP430 16-bit mixed signal microcontroller; ki_fp_filters: TSSOP*4.4x6.5mm*P0.65mm*; Footprint: Package_SO:TSSOP-20_4.4x6.5mm_P0.65mm; Datasheet: http://www.ti.com/lit/ds/symlink/msp430f2101.pdf; Description_: 1kB + 256B Flash, 128B RAM, TVSOP-20
pins: 1 TEST, 2 VCC, 3 P2.5/CA5, 4 VSS, 5 P2.7/XOUT/CA7, 6 P2.6/XIN/CA6, 7 ~{{RST}/NMI}, 8 P2.0/ACLK/CA2, 9 P2.1/INCLK/CA3, 10 P2.2/CAOUT/TA0/CA4, 11 P2.3/TA1/CA0, 12 P2.4/TA2/CA1, 13 TACLK/P1.0, 14 TA0/P1.1, 15 TA1/P1.2, 16 TA2/P1.3, 17 SMCLK/TCK/P1.4, 18 TA0/TMS/P1.5, 19 TA1/TCLK/TDI/P1.6, 20 TA2/TDI/TDO/P1.7

## MSP430F2101IDW
designator *  value MSP430F2101IDW  Reference: U
1kB + 256B Flash, 128B RAM, SOWB-20; ki_keywords: TI MSP430 16-bit mixed signal microcontroller; ki_fp_filters: SOIC*7.5x12.8mm*P1.27mm*; Footprint: Package_SO:SOIC-20W_7.5x12.8mm_P1.27mm; Datasheet: http://www.ti.com/lit/ds/symlink/msp430f2101.pdf; Description_: 1kB + 256B Flash, 128B RAM, SOWB-20
pins: 1 TEST, 2 VCC, 3 P2.5/CA5, 4 VSS, 5 P2.7/XOUT/CA7, 6 P2.6/XIN/CA6, 7 ~{{RST}/NMI}, 8 P2.0/ACLK/CA2, 9 P2.1/INCLK/CA3, 10 P2.2/CAOUT/TA0/CA4, 11 P2.3/TA1/CA0, 12 P2.4/TA2/CA1, 13 TACLK/P1.0, 14 TA0/P1.1, 15 TA1/P1.2, 16 TA2/P1.3, 17 SMCLK/TCK/P1.4, 18 TA0/TMS/P1.5, 19 TA1/TCLK/TDI/P1.6, 20 TA2/TDI/TDO/P1.7

## MSP430F2101IPW
designator *  value MSP430F2101IPW  Reference: U
1kB + 256B Flash, 128B RAM, TSSOP-20; ki_keywords: TI MSP430 16-bit mixed signal microcontroller; ki_fp_filters: TSSOP*4.4x6.5mm*P0.65mm*; Footprint: Package_SO:TSSOP-20_4.4x6.5mm_P0.65mm; Datasheet: http://www.ti.com/lit/ds/symlink/msp430f2101.pdf; Description_: 1kB + 256B Flash, 128B RAM, TSSOP-20
pins: 1 TEST, 2 VCC, 3 P2.5/CA5, 4 VSS, 5 P2.7/XOUT/CA7, 6 P2.6/XIN/CA6, 7 ~{{RST}/NMI}, 8 P2.0/ACLK/CA2, 9 P2.1/INCLK/CA3, 10 P2.2/CAOUT/TA0/CA4, 11 P2.3/TA1/CA0, 12 P2.4/TA2/CA1, 13 TACLK/P1.0, 14 TA0/P1.1, 15 TA1/P1.2, 16 TA2/P1.3, 17 SMCLK/TCK/P1.4, 18 TA0/TMS/P1.5, 19 TA1/TCLK/TDI/P1.6, 20 TA2/TDI/TDO/P1.7

## MSP430F2101IRGE
designator *  value MSP430F2101IRGE  Reference: U
1kB + 256B Flash, 128B RAM, QFN-24; ki_keywords: TI MSP430 16-bit mixed signal microcontroller; ki_fp_filters: VQFN*1EP*4x4mm*P0.5mm*; Footprint: Package_DFN_QFN:VQFN-24-1EP_4x4mm_P0.5mm_EP2.45x2.45mm; Datasheet: http://www.ti.com/lit/ds/symlink/msp430f2101.pdf; Description_: 1kB + 256B Flash, 128B RAM, QFN-24
pins: 2 VSS, 3 P2.7/XOUT/CA7, 4 P2.6/XIN/CA6, 5 ~{{RST}/NMI}, 6 P2.0/ACLK/CA2, 7 P2.1/INCLK/CA3, 8 P2.2/CAOUT/TA0/CA4, 10 P2.3/TA1/CA0, 11 P2.4/TA2/CA1, 13 TACLK/P1.0, 14 TA0/P1.1, 15 TA1/P1.2, 16 TA2/P1.3, 17 SMCLK/TCK/P1.4, 18 TA0/TMS/P1.5, 20 TA1/TCLK/TDI/P1.6, 21 TA2/TDI/TDO/P1.7, 22 TEST, 23 VCC, 24 P2.5/CA5

## MSP430F2111IDGV
designator *  value MSP430F2111IDGV  Reference: U
2kB + 256B Flash, 128B RAM, TVSOP-20; ki_keywords: TI MSP430 16-bit mixed signal microcontroller; ki_fp_filters: TSSOP*4.4x6.5mm*P0.65mm*; Footprint: Package_SO:TSSOP-20_4.4x6.5mm_P0.65mm; Datasheet: http://www.ti.com/lit/ds/symlink/msp430f2111.pdf; Description_: 2kB + 256B Flash, 128B RAM, TVSOP-20
pins: 1 TEST, 2 VCC, 3 P2.5/CA5, 4 VSS, 5 P2.7/XOUT/CA7, 6 P2.6/XIN/CA6, 7 ~{{RST}/NMI}, 8 P2.0/ACLK/CA2, 9 P2.1/INCLK/CA3, 10 P2.2/CAOUT/TA0/CA4, 11 P2.3/TA1/CA0, 12 P2.4/TA2/CA1, 13 TACLK/P1.0, 14 TA0/P1.1, 15 TA1/P1.2, 16 TA2/P1.3, 17 SMCLK/TCK/P1.4, 18 TA0/TMS/P1.5, 19 TA1/TCLK/TDI/P1.6, 20 TA2/TDI/TDO/P1.7

## MSP430F2111IDW
designator *  value MSP430F2111IDW  Reference: U
2kB + 256B Flash, 128B RAM, SOWB-20; ki_keywords: TI MSP430 16-bit mixed signal microcontroller; ki_fp_filters: SOIC*7.5x12.8mm*P1.27mm*; Footprint: Package_SO:SOIC-20W_7.5x12.8mm_P1.27mm; Datasheet: http://www.ti.com/lit/ds/symlink/msp430f2111.pdf; Description_: 2kB + 256B Flash, 128B RAM, SOWB-20
pins: 1 TEST, 2 VCC, 3 P2.5/CA5, 4 VSS, 5 P2.7/XOUT/CA7, 6 P2.6/XIN/CA6, 7 ~{{RST}/NMI}, 8 P2.0/ACLK/CA2, 9 P2.1/INCLK/CA3, 10 P2.2/CAOUT/TA0/CA4, 11 P2.3/TA1/CA0, 12 P2.4/TA2/CA1, 13 TACLK/P1.0, 14 TA0/P1.1, 15 TA1/P1.2, 16 TA2/P1.3, 17 SMCLK/TCK/P1.4, 18 TA0/TMS/P1.5, 19 TA1/TCLK/TDI/P1.6, 20 TA2/TDI/TDO/P1.7

## MSP430F2111IPW
designator *  value MSP430F2111IPW  Reference: U
2kB + 256B Flash, 128B RAM, TSSOP-20; ki_keywords: TI MSP430 16-bit mixed signal microcontroller; ki_fp_filters: TSSOP*4.4x6.5mm*P0.65mm*; Footprint: Package_SO:TSSOP-20_4.4x6.5mm_P0.65mm; Datasheet: http://www.ti.com/lit/ds/symlink/msp430f2111.pdf; Description_: 2kB + 256B Flash, 128B RAM, TSSOP-20
pins: 1 TEST, 2 VCC, 3 P2.5/CA5, 4 VSS, 5 P2.7/XOUT/CA7, 6 P2.6/XIN/CA6, 7 ~{{RST}/NMI}, 8 P2.0/ACLK/CA2, 9 P2.1/INCLK/CA3, 10 P2.2/CAOUT/TA0/CA4, 11 P2.3/TA1/CA0, 12 P2.4/TA2/CA1, 13 TACLK/P1.0, 14 TA0/P1.1, 15 TA1/P1.2, 16 TA2/P1.3, 17 SMCLK/TCK/P1.4, 18 TA0/TMS/P1.5, 19 TA1/TCLK/TDI/P1.6, 20 TA2/TDI/TDO/P1.7

## MSP430F2111IRGE
designator *  value MSP430F2111IRGE  Reference: U
2kB + 256B Flash, 128B RAM, QFN-24; ki_keywords: TI MSP430 16-bit mixed signal microcontroller; ki_fp_filters: VQFN*1EP*4x4mm*P0.5mm*; Footprint: Package_DFN_QFN:VQFN-24-1EP_4x4mm_P0.5mm_EP2.45x2.45mm; Datasheet: http://www.ti.com/lit/ds/symlink/msp430f2111.pdf; Description_: 2kB + 256B Flash, 128B RAM, QFN-24
pins: 2 VSS, 3 P2.7/XOUT/CA7, 4 P2.6/XIN/CA6, 5 ~{{RST}/NMI}, 6 P2.0/ACLK/CA2, 7 P2.1/INCLK/CA3, 8 P2.2/CAOUT/TA0/CA4, 10 P2.3/TA1/CA0, 11 P2.4/TA2/CA1, 13 TACLK/P1.0, 14 TA0/P1.1, 15 TA1/P1.2, 16 TA2/P1.3, 17 SMCLK/TCK/P1.4, 18 TA0/TMS/P1.5, 20 TA1/TCLK/TDI/P1.6, 21 TA2/TDI/TDO/P1.7, 22 TEST, 23 VCC, 24 P2.5/CA5

## MSP430F2112IPW
designator *  value MSP430F2112IPW  Reference: U
2kB + 256B Flash, 256B RAM, TSSOP-28; ki_keywords: TI MSP430 16-bit mixed signal microcontroller; ki_fp_filters: TSSOP*4.4x9.7mm*P0.65mm*; Footprint: Package_SO:TSSOP-28_4.4x9.7mm_P0.65mm; Datasheet: http://www.ti.com/lit/ds/symlink/msp430f2112.pdf; Description_: 2kB + 256B Flash, 256B RAM, TSSOP-28
pins: 1 SBWTCK/TEST, 2 DVCC, 3 CA5/Rosc/P2.5, 4 DVSS, 5 CA7/XOUT/P2.7, 6 CA6/XIN/P2.6, 7 ~{{RST}/NMI/SBWTDIO}, 8 CA2/ACLK/A0/P2.0, 9 CA3/TAINCLK/SMCLK/A1/P2.1, 10 CAOUT/CA4/TA0.0/A2/P2.2, 11 P3.0/UCB0STE/UCA0CLK/A5, 12 P3.1/UCB0SIMO/UCB0SDA, 13 P3.2/UCB0SOMI/UCB0SCL, 14 P3.3/UCB0CLK/UCA0STE, 15 P3.4/UCA0TXD/UCA0SIMO, 16 P3.5/UCA0RXD/UCA0SOMI, 17 P3.6/A6/TA1.0, 18 P3.7/A7/TA1.1, 19 CA0/TA0.1/A3/VREF-/VeREF-/P2.3, 20 CA1/TA0.2/A4/VREF+/VeREF+/P2.4, 21 CAOUT/TACLK/ADC10CLK/P1.0, 22 TA1.0/TA0.0/P1.1, 23 TA0.1/P1.2, 24 TA0.2/P1.3, 25 SMCLK/TCK/P1.4, 26 TA0.0/TMS/P1.5, 27 TA0.1/TDI/P1.6, 28 TA0.2/TDI/TDO/P1.7